# Altium schematic symbol library General.SchLib: 155 symbols (part 1 of 2)
Pins are listed as number, name and electrical type; pins without a type are passive.

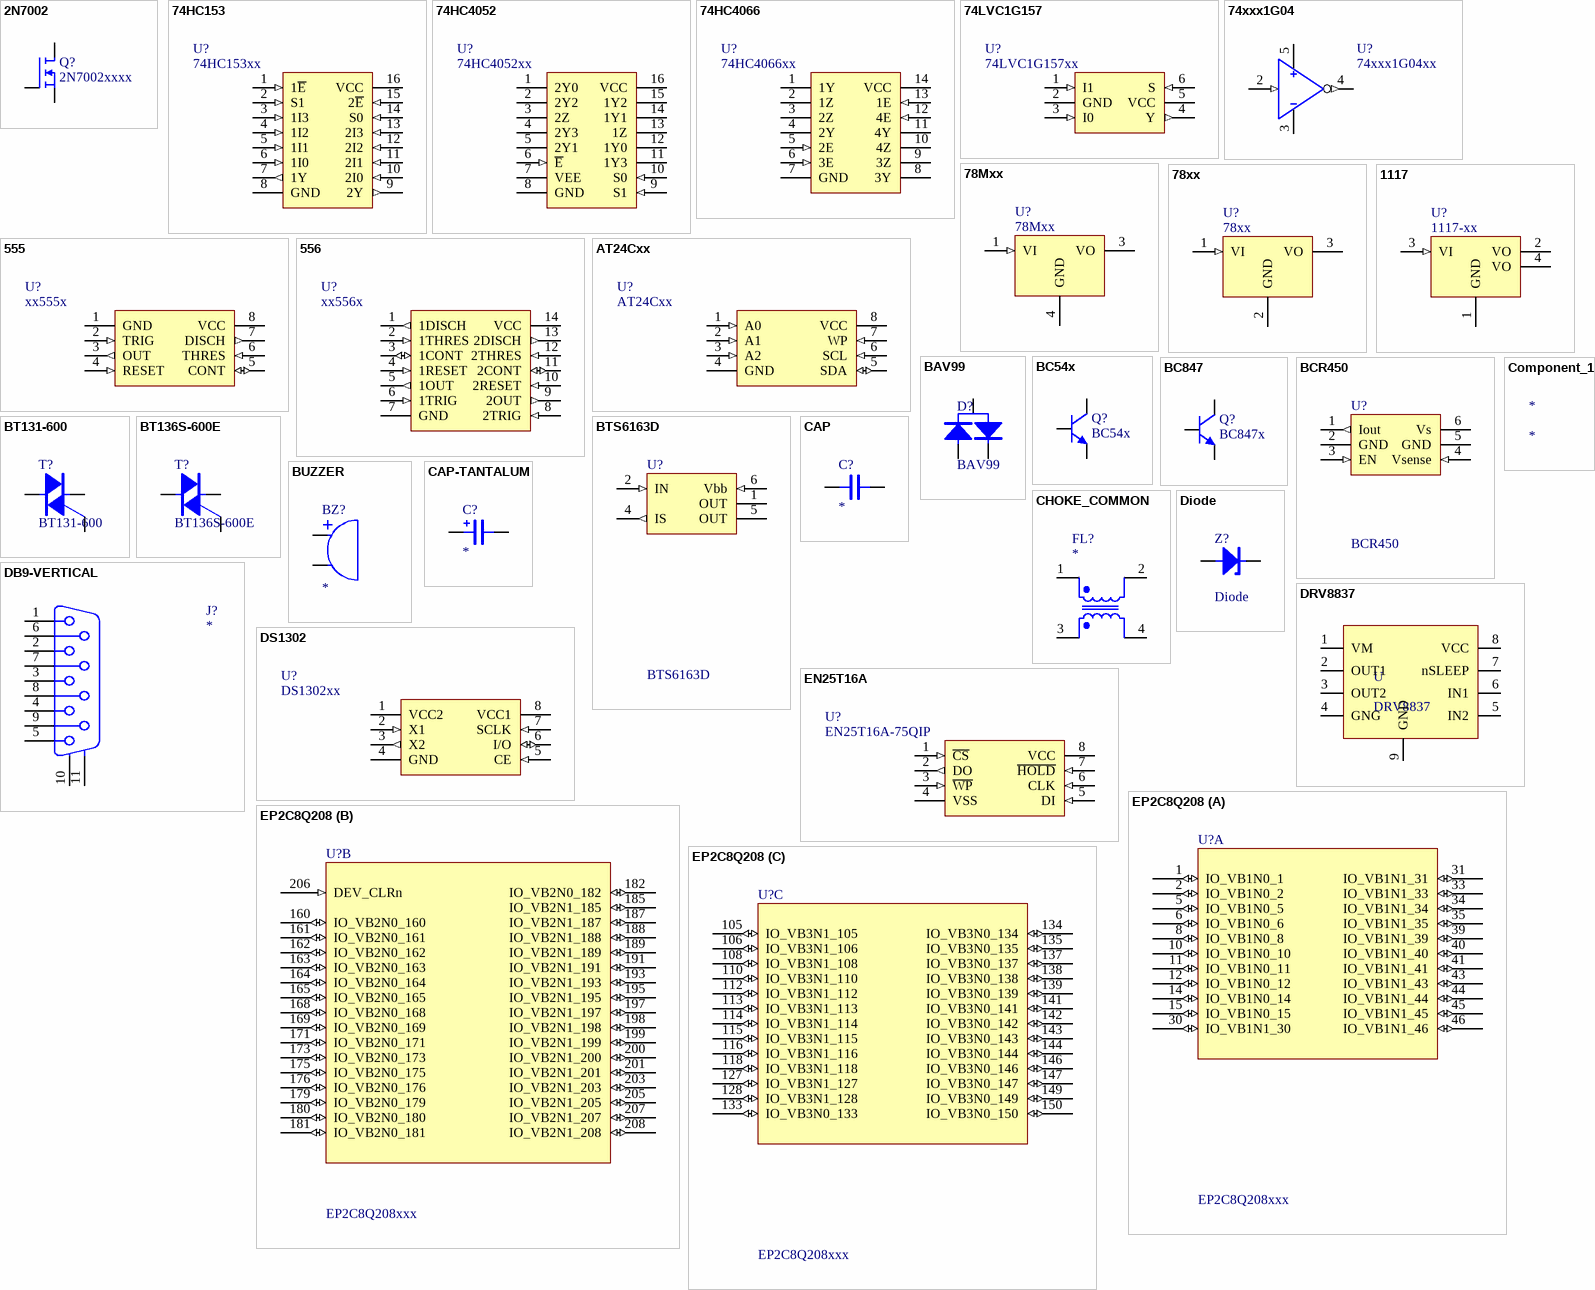
[diagram p0: symbols 2N7002 to EP2C8Q208]

## 2N7002
designator Q?, comment 2N7002xxxx
N-Channel MOSFET
footprint SOT-23 (SOT-23-3)
pins: 1 G, 2 S, 3 D
1 alternate drawing of the same symbol

## 74HC153
designator U?, comment 74HC153xx
IC
footprint TSSOP-16 (TSSOP, 16PIN)
footprint SSOP-16-SOT338-1 (SSOP, 16PIN, SOT338-1)
footprint SO-16 (SOIC, 16PIN)
footprint DIP-16 (Dual In-line Package, 16PIN)
pins: 1 1~{E} (in), 2 S1 (in), 3 1I3 (in), 4 1I2 (in), 5 1I1 (in), 6 1I0 (in), 7 1Y (out), 8 GND (power), 9 2Y (out), 10 2I0 (in), 11 2I1 (in), 12 2I2 (in), 13 2I3 (in), 14 S0 (in), 15 2~{E} (in), 16 VCC (power)

## 74HC4052
designator U?, comment 74HC4052xx
IC
footprint TSSOP-16 (TSSOP, 16PIN)
footprint SSOP-16-SOT338-1 (SSOP, 16PIN, SOT338-1)
footprint SO-16 (SOIC, 16PIN)
pins: 1 2Y0, 2 2Y2, 3 2Z, 4 2Y3, 5 2Y1, 6 ~{E} (in), 7 VEE (power), 8 GND (power), 9 S1 (in), 10 S0 (in), 11 1Y3, 12 1Y0, 13 1Z, 14 1Y1, 15 1Y2, 16 VCC (power)

## 74HC4066
designator U?, comment 74HC4066xx
IC
footprint TSSOP-14 (TSSOP, 14PIN)
footprint SSOP-14-SOT337-1 (SSOP, 14PIN, SOT337)
footprint SO-14 (SOIC, 14PIN)
pins: 1 1Y, 2 1Z, 3 2Z, 4 2Y, 5 2E (in), 6 3E (in), 7 GND (power), 8 3Y, 9 3Z, 10 4Z, 11 4Y, 12 4E (in), 13 1E (in), 14 VCC (power)

## 74LVC1G157
designator U?, comment 74LVC1G157xx
IC
footprint SOT-23-6
footprint SOT-363
pins: 1 I1 (in), 2 GND (power), 3 I0 (in), 4 Y (out), 5 VCC (power), 6 S (in)

## 74xxx1G04
designator U?, comment 74xxx1G04xx
IC
footprint SOT-23-5
pins: 2 A (in), 3 GND (power), 4 Y (out), 5 VCC (power)

## 78Mxx
designator U?
Linear Regulator
footprint TO-252 (TO-252, DPAK)
pins: 1 VI (in), 3 VO (power), 4 GND (power)

## 78xx
designator U?
Linear Regulator
footprint TO-220-V-1.1 (TO-220, 3PIN)
footprint TO-220-YK-1.1 (TO-220 & YK20)
pins: 1 VI (in), 2 GND (power), 3 VO (power)

## 555
designator U?, comment xx555x
IC
footprint SO-8 (SOIC, 8PIN)
footprint DIP-8 (Dual In-line Package, 8PIN)
pins: 1 GND (power), 2 TRIG (in), 3 OUT (out), 4 RESET (in), 5 CONT (io), 6 THRES (in), 7 DISCH (out), 8 VCC (power)

## 556
designator U?, comment xx556x
IC
footprint SO-14 (SOIC, 14PIN)
footprint DIP-14 (Dual In-line Package, 14PIN)
pins: 1 1DISCH (out), 2 1THRES (in), 3 1CONT (io), 4 1RESET (in), 5 1OUT (out), 6 1TRIG (in), 7 GND (power), 8 2TRIG (in), 9 2OUT (out), 10 2RESET (in), 11 2CONT (io), 12 2THRES (in), 13 2DISCH (out), 14 VCC (power)

## 1117
designator U?, comment 1117-xx
Linear Regulator
footprint SOT-223
pins: 1 GND (power), 2 VO (power), 3 VI (in), 4 VO (power)

## AT24Cxx
designator U?
EEPROM
footprint SO-8 (SOIC, 8PIN)
pins: 1 A0 (in), 2 A1 (in), 3 A2 (in), 4 GND (power), 5 SDA (io), 6 SCL (in), 7 WP (in), 8 VCC (power)

## BAV99
designator D?
Diode
footprint SOT-23 (SOT-23-3)
pins: 1 1A, 2 2C, 3 1C2A

## BC54x
designator Q?
NPN Bipolar Transistor
footprint TO-92-0.6 (TO-92)
pins: 1 C, 2 B, 3 E

## BC847
designator Q?, comment BC847x
NPN Bipolar Transistor
footprint SOT-23 (SOT-23-3)
pins: 1 B, 2 E, 3 C

## BCR450
designator U?
LED Driver
footprint SOT-23-6
pins: 1 Iout (out), 2 GND (power), 3 EN (in), 4 Vsense (in), 5 GND (power), 6 Vs (power)

## BT131-600
designator T?
Triac
footprint TO-92-0.6 (TO-92)
pins: 1 T1, 2 G, 3 T2

## BT136S-600E
designator T?
Triac
footprint TO-252 (TO-252, DPAK)
pins: 1 T1, 3 G, 4 T2

## BTS6163D
designator U?
IC
footprint TO-252-5-11 (TO-252-5-11, DPAK5)
pins: 1 OUT (power), 2 IN (in), 4 IS (out), 5 OUT (power), 6 Vbb (in)

## BUZZER
designator BZ?
Buzzer
footprint BUZZER-D12.0X8.5-6.5-0.8 (Buzzer)
pins: 1, 2

## CAP
designator C?
Capacitor
footprint CAP-0805 (Capacitors, SMD, 0805)
footprint CAP-0603 (Capacitors, SMD, 0603)
footprint CAP-1206 (Capacitors, SMD, 1206)
footprint CAP-1210 (Capacitors, SMD, 1210)
footprint CAP-1812 (Capacitors, SMD, 1812)
pins: 1, 2

## CAP-TANTALUM
designator C?
Tantalum Capacitor
footprint CAP-TANTALUM-A (Tantalum Capacitor Case A, SMD)
footprint CAP-TANTALUM-B (Tantalum Capacitor Case B, SMD)
footprint CAP-TANTALUM-C (Tantalum Capacitor Case C, SMD)
footprint CAP-TANTALUM-D (Tantalum Capacitor Case D, SMD)
footprint CAP-TANTALUM-E (Tantalum Capacitor Case E, SMD)
pins: 1, 2

## CHOKE_COMMON
designator FL?
Choke
footprint CHOKE-13x10 (Choke)
pins: 1, 2, 3, 4

## Component_1
designator *

## DB9-VERTICAL
designator J?
Connector
footprint DB9-VERTICAL (D-Subminiature Connector)
pins: 1, 2, 3, 4, 5, 6, 7, 8, 9, 10 MH1, 11 MH2

## Diode
designator Z?
Zener Diode
footprint DO-41
pins: 1 A, 2 C

## DRV8837
designator U
footprint WSON-8
pins: 1 VM, 2 OUT1, 3 OUT2, 4 GNG, 5 IN2, 6 IN1, 7 nSLEEP, 8 VCC, 9 GND

## DS1302
designator U?, comment DS1302xx
IC
footprint SO-8 (SOIC, 8PIN)
footprint DIP-8 (Dual In-line Package, 8PIN)
pins: 1 VCC2 (power), 2 X1 (in), 3 X2 (out), 4 GND (power), 5 CE (in), 6 I/O (io), 7 SCLK (in), 8 VCC1 (power)

## EN25T16A
designator U?, comment EN25T16A-75QIP
Serial Flash
footprint DIP-8 (Dual In-line Package, 8PIN)
pins: 1 ~{CS} (in), 2 DO (out), 3 ~{WP} (in), 4 VSS (power), 5 DI (in), 6 CLK (in), 7 ~{HOLD} (in), 8 VCC (power)

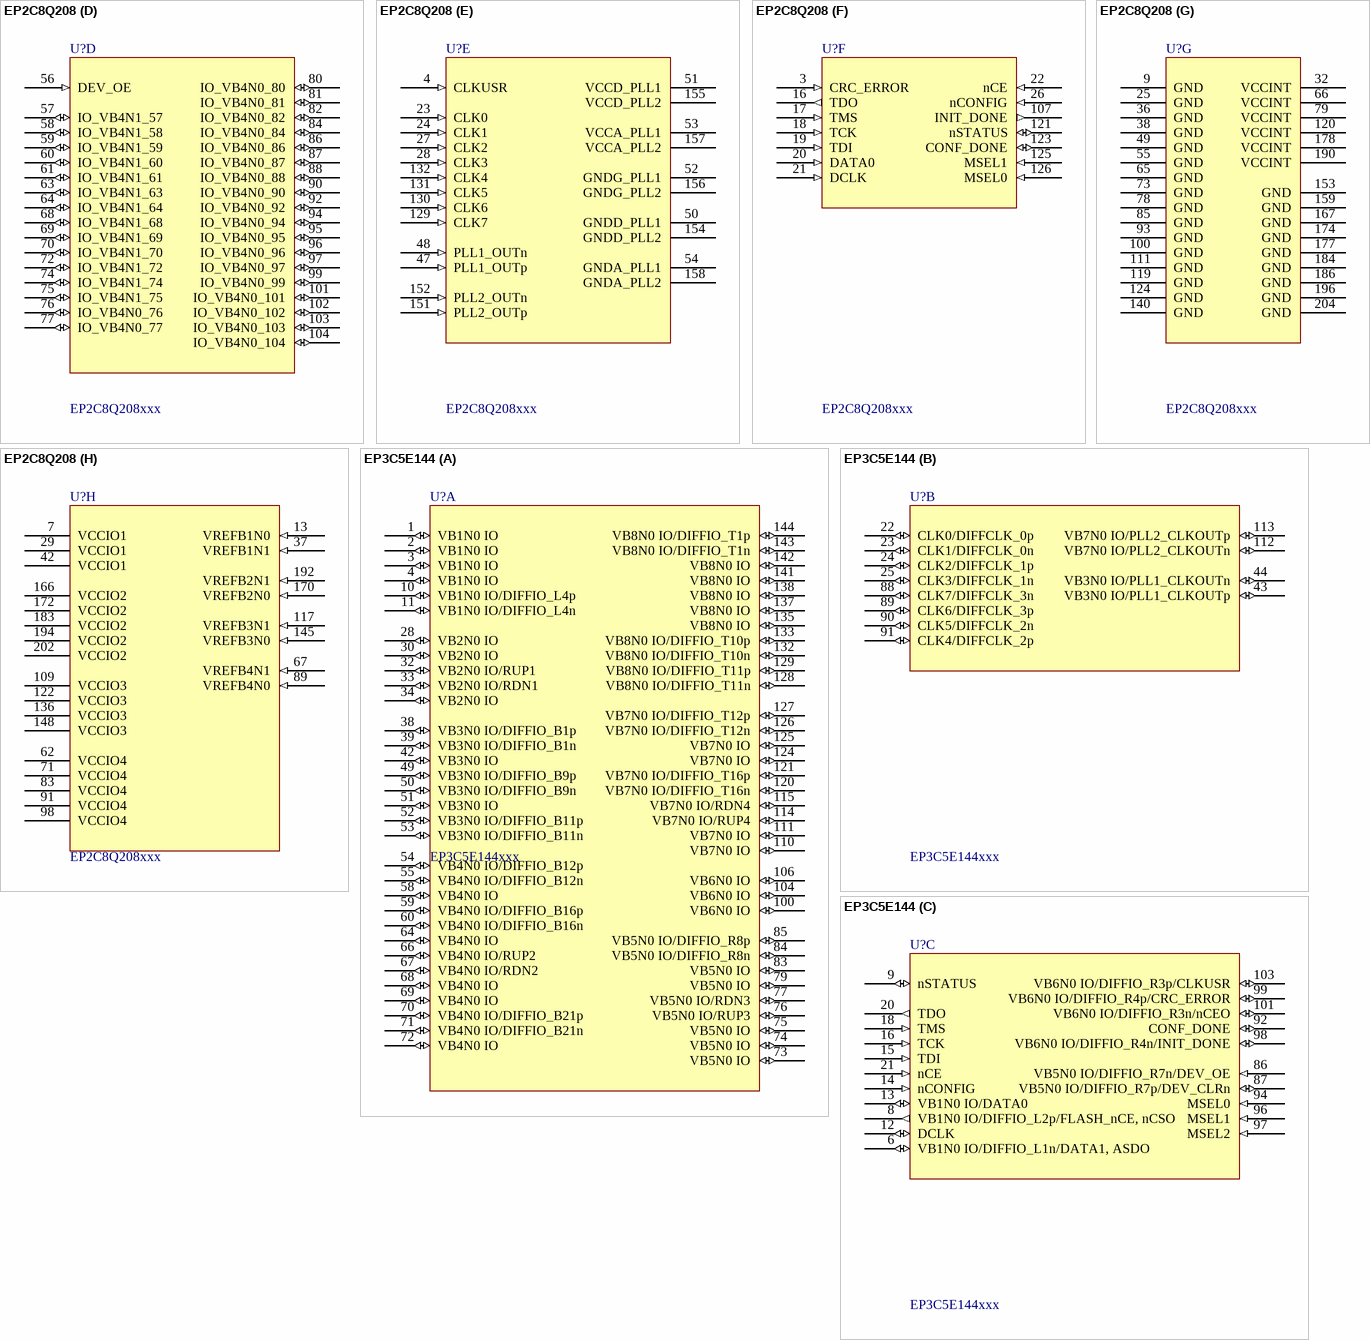
[diagram p1: symbols EP2C8Q208 to EP3C5E144]

## EP2C8Q208
designator U?, comment EP2C8Q208xxx
FPGA
footprint QFP-208-0.5 (QFP-208)
part A pins: 1 IO_VB1N0_1 (io), 2 IO_VB1N0_2 (io), 5 IO_VB1N0_5 (io), 6 IO_VB1N0_6 (io), 8 IO_VB1N0_8 (io), 10 IO_VB1N0_10 (io), 11 IO_VB1N0_11 (io), 12 IO_VB1N0_12 (io), 14 IO_VB1N0_14 (io), 15 IO_VB1N0_15 (io), 30 IO_VB1N1_30 (io), 31 IO_VB1N1_31 (io), 33 IO_VB1N1_33 (io), 34 IO_VB1N1_34 (io), 35 IO_VB1N1_35 (io), 39 IO_VB1N1_39 (io), 40 IO_VB1N1_40 (io), 41 IO_VB1N1_41 (io), 43 IO_VB1N1_43 (io), 44 IO_VB1N1_44 (io), 45 IO_VB1N1_45 (io), 46 IO_VB1N1_46 (io)
part B pins: 160 IO_VB2N0_160 (io), 161 IO_VB2N0_161 (io), 162 IO_VB2N0_162 (io), 163 IO_VB2N0_163 (io), 164 IO_VB2N0_164 (io), 165 IO_VB2N0_165 (io), 168 IO_VB2N0_168 (io), 169 IO_VB2N0_169 (io), 171 IO_VB2N0_171 (io), 173 IO_VB2N0_173 (io), 175 IO_VB2N0_175 (io), 176 IO_VB2N0_176 (io), 179 IO_VB2N0_179 (io), 180 IO_VB2N0_180 (io), 181 IO_VB2N0_181 (io), 182 IO_VB2N0_182 (io), 185 IO_VB2N1_185 (io), 187 IO_VB2N1_187 (io), 188 IO_VB2N1_188 (io), 189 IO_VB2N1_189 (io), 191 IO_VB2N1_191 (io), 193 IO_VB2N1_193 (io), 195 IO_VB2N1_195 (io), 197 IO_VB2N1_197 (io), 198 IO_VB2N1_198 (io), 199 IO_VB2N1_199 (io), 200 IO_VB2N1_200 (io), 201 IO_VB2N1_201 (io), 203 IO_VB2N1_203 (io), 205 IO_VB2N1_205 (io), 206 DEV_CLRn (in), 207 IO_VB2N1_207 (io), 208 IO_VB2N1_208 (io)
part C pins: 105 IO_VB3N1_105 (io), 106 IO_VB3N1_106 (io), 108 IO_VB3N1_108 (io), 110 IO_VB3N1_110 (io), 112 IO_VB3N1_112 (io), 113 IO_VB3N1_113 (io), 114 IO_VB3N1_114 (io), 115 IO_VB3N1_115 (io), 116 IO_VB3N1_116 (io), 118 IO_VB3N1_118 (io), 127 IO_VB3N1_127 (io), 128 IO_VB3N1_128 (io), 133 IO_VB3N0_133 (io), 134 IO_VB3N0_134 (io), 135 IO_VB3N0_135 (io), 137 IO_VB3N0_137 (io), 138 IO_VB3N0_138 (io), 139 IO_VB3N0_139 (io), 141 IO_VB3N0_141 (io), 142 IO_VB3N0_142 (io), 143 IO_VB3N0_143 (io), 144 IO_VB3N0_144 (io), 146 IO_VB3N0_146 (io), 147 IO_VB3N0_147 (io), 149 IO_VB3N0_149 (io), 150 IO_VB3N0_150 (io)
part D pins: 56 DEV_OE (in), 57 IO_VB4N1_57 (io), 58 IO_VB4N1_58 (io), 59 IO_VB4N1_59 (io), 60 IO_VB4N1_60 (io), 61 IO_VB4N1_61 (io), 63 IO_VB4N1_63 (io), 64 IO_VB4N1_64 (io), 68 IO_VB4N1_68 (io), 69 IO_VB4N1_69 (io), 70 IO_VB4N1_70 (io), 72 IO_VB4N1_72 (io), 74 IO_VB4N1_74 (io), 75 IO_VB4N1_75 (io), 76 IO_VB4N0_76 (io), 77 IO_VB4N0_77 (io), 80 IO_VB4N0_80 (io), 81 IO_VB4N0_81 (io), 82 IO_VB4N0_82 (io), 84 IO_VB4N0_84 (io), 86 IO_VB4N0_86 (io), 87 IO_VB4N0_87 (io), 88 IO_VB4N0_88 (io), 90 IO_VB4N0_90 (io), 92 IO_VB4N0_92 (io), 94 IO_VB4N0_94 (io), 95 IO_VB4N0_95 (io), 96 IO_VB4N0_96 (io), 97 IO_VB4N0_97 (io), 99 IO_VB4N0_99 (io), 101 IO_VB4N0_101 (io), 102 IO_VB4N0_102 (io), 103 IO_VB4N0_103 (io), 104 IO_VB4N0_104 (io)
part E pins: 4 CLKUSR (in), 23 CLK0 (in), 24 CLK1 (in), 27 CLK2 (in), 28 CLK3 (in), 47 PLL1_OUTp (in), 48 PLL1_OUTn (in), 50 GNDD_PLL1 (power), 51 VCCD_PLL1 (power), 52 GNDG_PLL1 (power), 53 VCCA_PLL1 (power), 54 GNDA_PLL1 (power), 129 CLK7 (in), 130 CLK6 (in), 131 CLK5 (in), 132 CLK4 (in), 151 PLL2_OUTp (in), 152 PLL2_OUTn (in), 154 GNDD_PLL2 (power), 155 VCCD_PLL2 (power), 156 GNDG_PLL2 (power), 157 VCCA_PLL2 (power), 158 GNDA_PLL2 (power)
part F pins: 3 CRC_ERROR (in), 16 TDO (out), 17 TMS (in), 18 TCK (in), 19 TDI (in), 20 DATA0 (in), 21 DCLK (in), 22 nCE (in), 26 nCONFIG (in), 107 INIT_DONE (out), 121 nSTATUS (io), 123 CONF_DONE (io), 125 MSEL1 (in), 126 MSEL0 (in)
part G pins: 9 GND (power), 25 GND (power), 32 VCCINT (power), 36 GND (power), 38 GND (power), 49 GND (power), 55 GND (power), 65 GND (power), 66 VCCINT (power), 73 GND (power), 78 GND (power), 79 VCCINT (power), 85 GND (power), 93 GND (power), 100 GND (power), 111 GND (power), 119 GND (power), 120 VCCINT (power), 124 GND (power), 140 GND (power), 153 GND (power), 159 GND (power), 167 GND (power), 174 GND (power), 177 GND (power), 178 VCCINT (power), 184 GND (power), 186 GND (power), 190 VCCINT (power), 196 GND (power), 204 GND (power)
part H pins: 7 VCCIO1 (power), 13 VREFB1N0 (in), 29 VCCIO1 (power), 37 VREFB1N1 (in), 42 VCCIO1 (power), 62 VCCIO4 (power), 67 VREFB4N1 (in), 71 VCCIO4 (power), 83 VCCIO4 (power), 89 VREFB4N0 (in), 91 VCCIO4 (power), 98 VCCIO4 (power), 109 VCCIO3 (power), 117 VREFB3N1 (in), 122 VCCIO3 (power), 136 VCCIO3 (power), 145 VREFB3N0 (in), 148 VCCIO3 (power), 166 VCCIO2 (power), 170 VREFB2N0 (in), 172 VCCIO2 (power), 183 VCCIO2 (power), 192 VREFB2N1 (in), 194 VCCIO2 (power), 202 VCCIO2 (power)

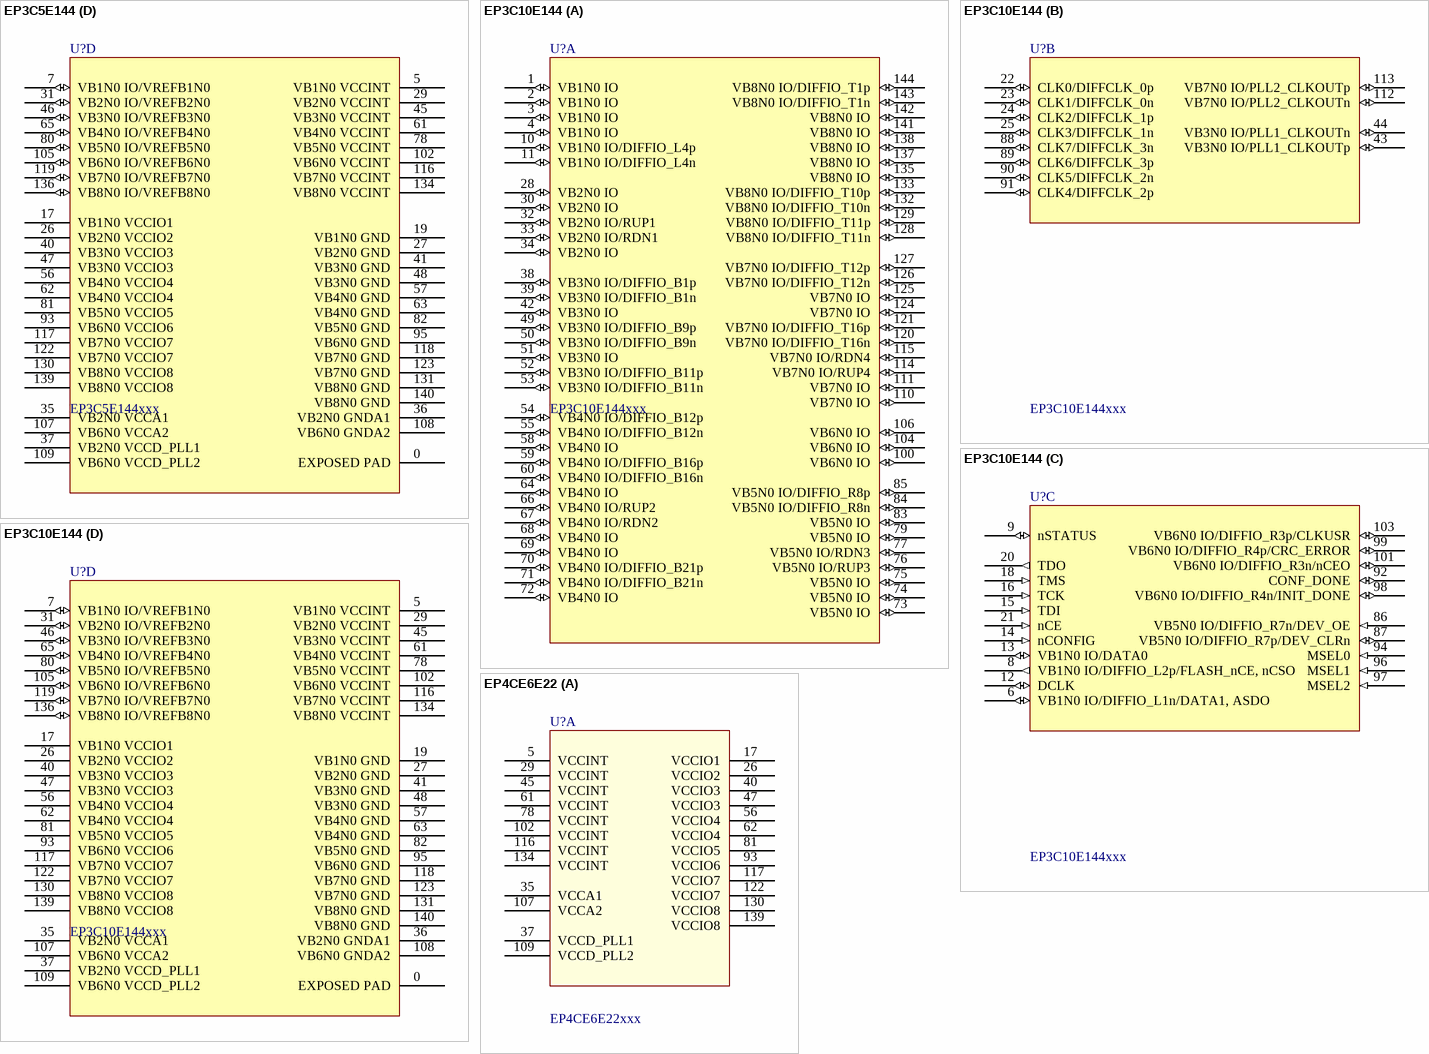
[diagram p2: symbols EP3C5E144 to EP4CE6E22]

## EP3C5E144
designator U?, comment EP3C5E144xxx
FPGA
footprint EQFP-144-0.5 (EQFP-144)
part A pins: 1 VB1N0 IO (io), 2 VB1N0 IO (io), 3 VB1N0 IO (io), 4 VB1N0 IO (io), 10 VB1N0 IO/DIFFIO_L4p (io), 11 VB1N0 IO/DIFFIO_L4n (io), 28 VB2N0 IO (io), 30 VB2N0 IO (io), 32 VB2N0 IO/RUP1 (io), 33 VB2N0 IO/RDN1 (io), 34 VB2N0 IO (io), 38 VB3N0 IO/DIFFIO_B1p (io), 39 VB3N0 IO/DIFFIO_B1n (io), 42 VB3N0 IO (io), 49 VB3N0 IO/DIFFIO_B9p (io), 50 VB3N0 IO/DIFFIO_B9n (io), 51 VB3N0 IO (io), 52 VB3N0 IO/DIFFIO_B11p (io), 53 VB3N0 IO/DIFFIO_B11n (io), 54 VB4N0 IO/DIFFIO_B12p (io), 55 VB4N0 IO/DIFFIO_B12n (io), 58 VB4N0 IO (io), 59 VB4N0 IO/DIFFIO_B16p (io), 60 VB4N0 IO/DIFFIO_B16n (io), 64 VB4N0 IO (io), 66 VB4N0 IO/RUP2 (io), 67 VB4N0 IO/RDN2 (io), 68 VB4N0 IO (io), 69 VB4N0 IO (io), 70 VB4N0 IO/DIFFIO_B21p (io), 71 VB4N0 IO/DIFFIO_B21n (io), 72 VB4N0 IO (io), 73 VB5N0 IO (io), 74 VB5N0 IO (io), 75 VB5N0 IO (io), 76 VB5N0 IO/RUP3 (io), 77 VB5N0 IO/RDN3 (io), 79 VB5N0 IO (io), 83 VB5N0 IO (io), 84 VB5N0 IO/DIFFIO_R8n (io), 85 VB5N0 IO/DIFFIO_R8p (io), 100 VB6N0 IO (io), 104 VB6N0 IO (io), 106 VB6N0 IO (io), 110 VB7N0 IO (io), 111 VB7N0 IO (io), 114 VB7N0 IO/RUP4 (io), 115 VB7N0 IO/RDN4 (io), 120 VB7N0 IO/DIFFIO_T16n (io), 121 VB7N0 IO/DIFFIO_T16p (io), 124 VB7N0 IO (io), 125 VB7N0 IO (io), 126 VB7N0 IO/DIFFIO_T12n (io), 127 VB7N0 IO/DIFFIO_T12p (io), 128 VB8N0 IO/DIFFIO_T11n (io), 129 VB8N0 IO/DIFFIO_T11p (io), 132 VB8N0 IO/DIFFIO_T10n (io), 133 VB8N0 IO/DIFFIO_T10p (io), 135 VB8N0 IO (io), 137 VB8N0 IO (io), 138 VB8N0 IO (io), 141 VB8N0 IO (io), 142 VB8N0 IO (io), 143 VB8N0 IO/DIFFIO_T1n (io), 144 VB8N0 IO/DIFFIO_T1p (io)
part B pins: 22 CLK0/DIFFCLK_0p (io), 23 CLK1/DIFFCLK_0n (io), 24 CLK2/DIFFCLK_1p (io), 25 CLK3/DIFFCLK_1n (io), 43 VB3N0 IO/PLL1_CLKOUTp (io), 44 VB3N0 IO/PLL1_CLKOUTn (io), 88 CLK7/DIFFCLK_3n (io), 89 CLK6/DIFFCLK_3p (io), 90 CLK5/DIFFCLK_2n (io), 91 CLK4/DIFFCLK_2p (io), 112 VB7N0 IO/PLL2_CLKOUTn (io), 113 VB7N0 IO/PLL2_CLKOUTp (io)
part C pins: 6 VB1N0 IO/DIFFIO_L1n/DATA1, ASDO (io), 8 VB1N0 IO/DIFFIO_L2p/FLASH_nCE, nCSO (out), 9 nSTATUS (io), 12 DCLK (io), 13 VB1N0 IO/DATA0 (io), 14 nCONFIG (in), 15 TDI (in), 16 TCK (in), 18 TMS (in), 20 TDO (out), 21 nCE (in), 86 VB5N0 IO/DIFFIO_R7n/DEV_OE (in), 87 VB5N0 IO/DIFFIO_R7p/DEV_CLRn (io), 92 CONF_DONE (io), 94 MSEL0 (in), 96 MSEL1 (in), 97 MSEL2 (in), 98 VB6N0 IO/DIFFIO_R4n/INIT_DONE (io), 99 VB6N0 IO/DIFFIO_R4p/CRC_ERROR (io), 101 VB6N0 IO/DIFFIO_R3n/nCEO (io), 103 VB6N0 IO/DIFFIO_R3p/CLKUSR (io)
part D pins: 0 EXPOSED PAD (power), 5 VB1N0 VCCINT (power), 7 VB1N0 IO/VREFB1N0 (io), 17 VB1N0 VCCIO1 (power), 19 VB1N0 GND (power), 26 VB2N0 VCCIO2 (power), 27 VB2N0 GND (power), 29 VB2N0 VCCINT (power), 31 VB2N0 IO/VREFB2N0 (io), 35 VB2N0 VCCA1 (power), 36 VB2N0 GNDA1 (power), 37 VB2N0 VCCD_PLL1 (power), 40 VB3N0 VCCIO3 (power), 41 VB3N0 GND (power), 45 VB3N0 VCCINT (power), 46 VB3N0 IO/VREFB3N0 (io), 47 VB3N0 VCCIO3 (power), 48 VB3N0 GND (power), 56 VB4N0 VCCIO4 (power), 57 VB4N0 GND (power), 61 VB4N0 VCCINT (power), 62 VB4N0 VCCIO4 (power), 63 VB4N0 GND (power), 65 VB4N0 IO/VREFB4N0 (io), 78 VB5N0 VCCINT (power), 80 VB5N0 IO/VREFB5N0 (io), 81 VB5N0 VCCIO5 (power), 82 VB5N0 GND (power), 93 VB6N0 VCCIO6 (power), 95 VB6N0 GND (power), 102 VB6N0 VCCINT (power), 105 VB6N0 IO/VREFB6N0 (io), 107 VB6N0 VCCA2 (power), 108 VB6N0 GNDA2 (power), 109 VB6N0 VCCD_PLL2 (power), 116 VB7N0 VCCINT (power), 117 VB7N0 VCCIO7 (power), 118 VB7N0 GND (power), 119 VB7N0 IO/VREFB7N0 (io), 122 VB7N0 VCCIO7 (power), 123 VB7N0 GND (power), 130 VB8N0 VCCIO8 (power), 131 VB8N0 GND (power), 134 VB8N0 VCCINT (power), 136 VB8N0 IO/VREFB8N0 (io), 139 VB8N0 VCCIO8 (power), 140 VB8N0 GND (power)

## EP3C10E144
designator U?, comment EP3C10E144xxx
FPGA
footprint EQFP-144-0.5 (EQFP-144)
part A pins: 1 VB1N0 IO (io), 2 VB1N0 IO (io), 3 VB1N0 IO (io), 4 VB1N0 IO (io), 10 VB1N0 IO/DIFFIO_L4p (io), 11 VB1N0 IO/DIFFIO_L4n (io), 28 VB2N0 IO (io), 30 VB2N0 IO (io), 32 VB2N0 IO/RUP1 (io), 33 VB2N0 IO/RDN1 (io), 34 VB2N0 IO (io), 38 VB3N0 IO/DIFFIO_B1p (io), 39 VB3N0 IO/DIFFIO_B1n (io), 42 VB3N0 IO (io), 49 VB3N0 IO/DIFFIO_B9p (io), 50 VB3N0 IO/DIFFIO_B9n (io), 51 VB3N0 IO (io), 52 VB3N0 IO/DIFFIO_B11p (io), 53 VB3N0 IO/DIFFIO_B11n (io), 54 VB4N0 IO/DIFFIO_B12p (io), 55 VB4N0 IO/DIFFIO_B12n (io), 58 VB4N0 IO (io), 59 VB4N0 IO/DIFFIO_B16p (io), 60 VB4N0 IO/DIFFIO_B16n (io), 64 VB4N0 IO (io), 66 VB4N0 IO/RUP2 (io), 67 VB4N0 IO/RDN2 (io), 68 VB4N0 IO (io), 69 VB4N0 IO (io), 70 VB4N0 IO/DIFFIO_B21p (io), 71 VB4N0 IO/DIFFIO_B21n (io), 72 VB4N0 IO (io), 73 VB5N0 IO (io), 74 VB5N0 IO (io), 75 VB5N0 IO (io), 76 VB5N0 IO/RUP3 (io), 77 VB5N0 IO/RDN3 (io), 79 VB5N0 IO (io), 83 VB5N0 IO (io), 84 VB5N0 IO/DIFFIO_R8n (io), 85 VB5N0 IO/DIFFIO_R8p (io), 100 VB6N0 IO (io), 104 VB6N0 IO (io), 106 VB6N0 IO (io), 110 VB7N0 IO (io), 111 VB7N0 IO (io), 114 VB7N0 IO/RUP4 (io), 115 VB7N0 IO/RDN4 (io), 120 VB7N0 IO/DIFFIO_T16n (io), 121 VB7N0 IO/DIFFIO_T16p (io), 124 VB7N0 IO (io), 125 VB7N0 IO (io), 126 VB7N0 IO/DIFFIO_T12n (io), 127 VB7N0 IO/DIFFIO_T12p (io), 128 VB8N0 IO/DIFFIO_T11n (io), 129 VB8N0 IO/DIFFIO_T11p (io), 132 VB8N0 IO/DIFFIO_T10n (io), 133 VB8N0 IO/DIFFIO_T10p (io), 135 VB8N0 IO (io), 137 VB8N0 IO (io), 138 VB8N0 IO (io), 141 VB8N0 IO (io), 142 VB8N0 IO (io), 143 VB8N0 IO/DIFFIO_T1n (io), 144 VB8N0 IO/DIFFIO_T1p (io)
part B pins: 22 CLK0/DIFFCLK_0p (io), 23 CLK1/DIFFCLK_0n (io), 24 CLK2/DIFFCLK_1p (io), 25 CLK3/DIFFCLK_1n (io), 43 VB3N0 IO/PLL1_CLKOUTp (io), 44 VB3N0 IO/PLL1_CLKOUTn (io), 88 CLK7/DIFFCLK_3n (io), 89 CLK6/DIFFCLK_3p (io), 90 CLK5/DIFFCLK_2n (io), 91 CLK4/DIFFCLK_2p (io), 112 VB7N0 IO/PLL2_CLKOUTn (io), 113 VB7N0 IO/PLL2_CLKOUTp (io)
part C pins: 6 VB1N0 IO/DIFFIO_L1n/DATA1, ASDO (io), 8 VB1N0 IO/DIFFIO_L2p/FLASH_nCE, nCSO (out), 9 nSTATUS (io), 12 DCLK (io), 13 VB1N0 IO/DATA0 (io), 14 nCONFIG (in), 15 TDI (in), 16 TCK (in), 18 TMS (in), 20 TDO (out), 21 nCE (in), 86 VB5N0 IO/DIFFIO_R7n/DEV_OE (in), 87 VB5N0 IO/DIFFIO_R7p/DEV_CLRn (io), 92 CONF_DONE (io), 94 MSEL0 (in), 96 MSEL1 (in), 97 MSEL2 (in), 98 VB6N0 IO/DIFFIO_R4n/INIT_DONE (io), 99 VB6N0 IO/DIFFIO_R4p/CRC_ERROR (io), 101 VB6N0 IO/DIFFIO_R3n/nCEO (io), 103 VB6N0 IO/DIFFIO_R3p/CLKUSR (io)
part D pins: 0 EXPOSED PAD (power), 5 VB1N0 VCCINT (power), 7 VB1N0 IO/VREFB1N0 (io), 17 VB1N0 VCCIO1 (power), 19 VB1N0 GND (power), 26 VB2N0 VCCIO2 (power), 27 VB2N0 GND (power), 29 VB2N0 VCCINT (power), 31 VB2N0 IO/VREFB2N0 (io), 35 VB2N0 VCCA1 (power), 36 VB2N0 GNDA1 (power), 37 VB2N0 VCCD_PLL1 (power), 40 VB3N0 VCCIO3 (power), 41 VB3N0 GND (power), 45 VB3N0 VCCINT (power), 46 VB3N0 IO/VREFB3N0 (io), 47 VB3N0 VCCIO3 (power), 48 VB3N0 GND (power), 56 VB4N0 VCCIO4 (power), 57 VB4N0 GND (power), 61 VB4N0 VCCINT (power), 62 VB4N0 VCCIO4 (power), 63 VB4N0 GND (power), 65 VB4N0 IO/VREFB4N0 (io), 78 VB5N0 VCCINT (power), 80 VB5N0 IO/VREFB5N0 (io), 81 VB5N0 VCCIO5 (power), 82 VB5N0 GND (power), 93 VB6N0 VCCIO6 (power), 95 VB6N0 GND (power), 102 VB6N0 VCCINT (power), 105 VB6N0 IO/VREFB6N0 (io), 107 VB6N0 VCCA2 (power), 108 VB6N0 GNDA2 (power), 109 VB6N0 VCCD_PLL2 (power), 116 VB7N0 VCCINT (power), 117 VB7N0 VCCIO7 (power), 118 VB7N0 GND (power), 119 VB7N0 IO/VREFB7N0 (io), 122 VB7N0 VCCIO7 (power), 123 VB7N0 GND (power), 130 VB8N0 VCCIO8 (power), 131 VB8N0 GND (power), 134 VB8N0 VCCINT (power), 136 VB8N0 IO/VREFB8N0 (io), 139 VB8N0 VCCIO8 (power), 140 VB8N0 GND (power)

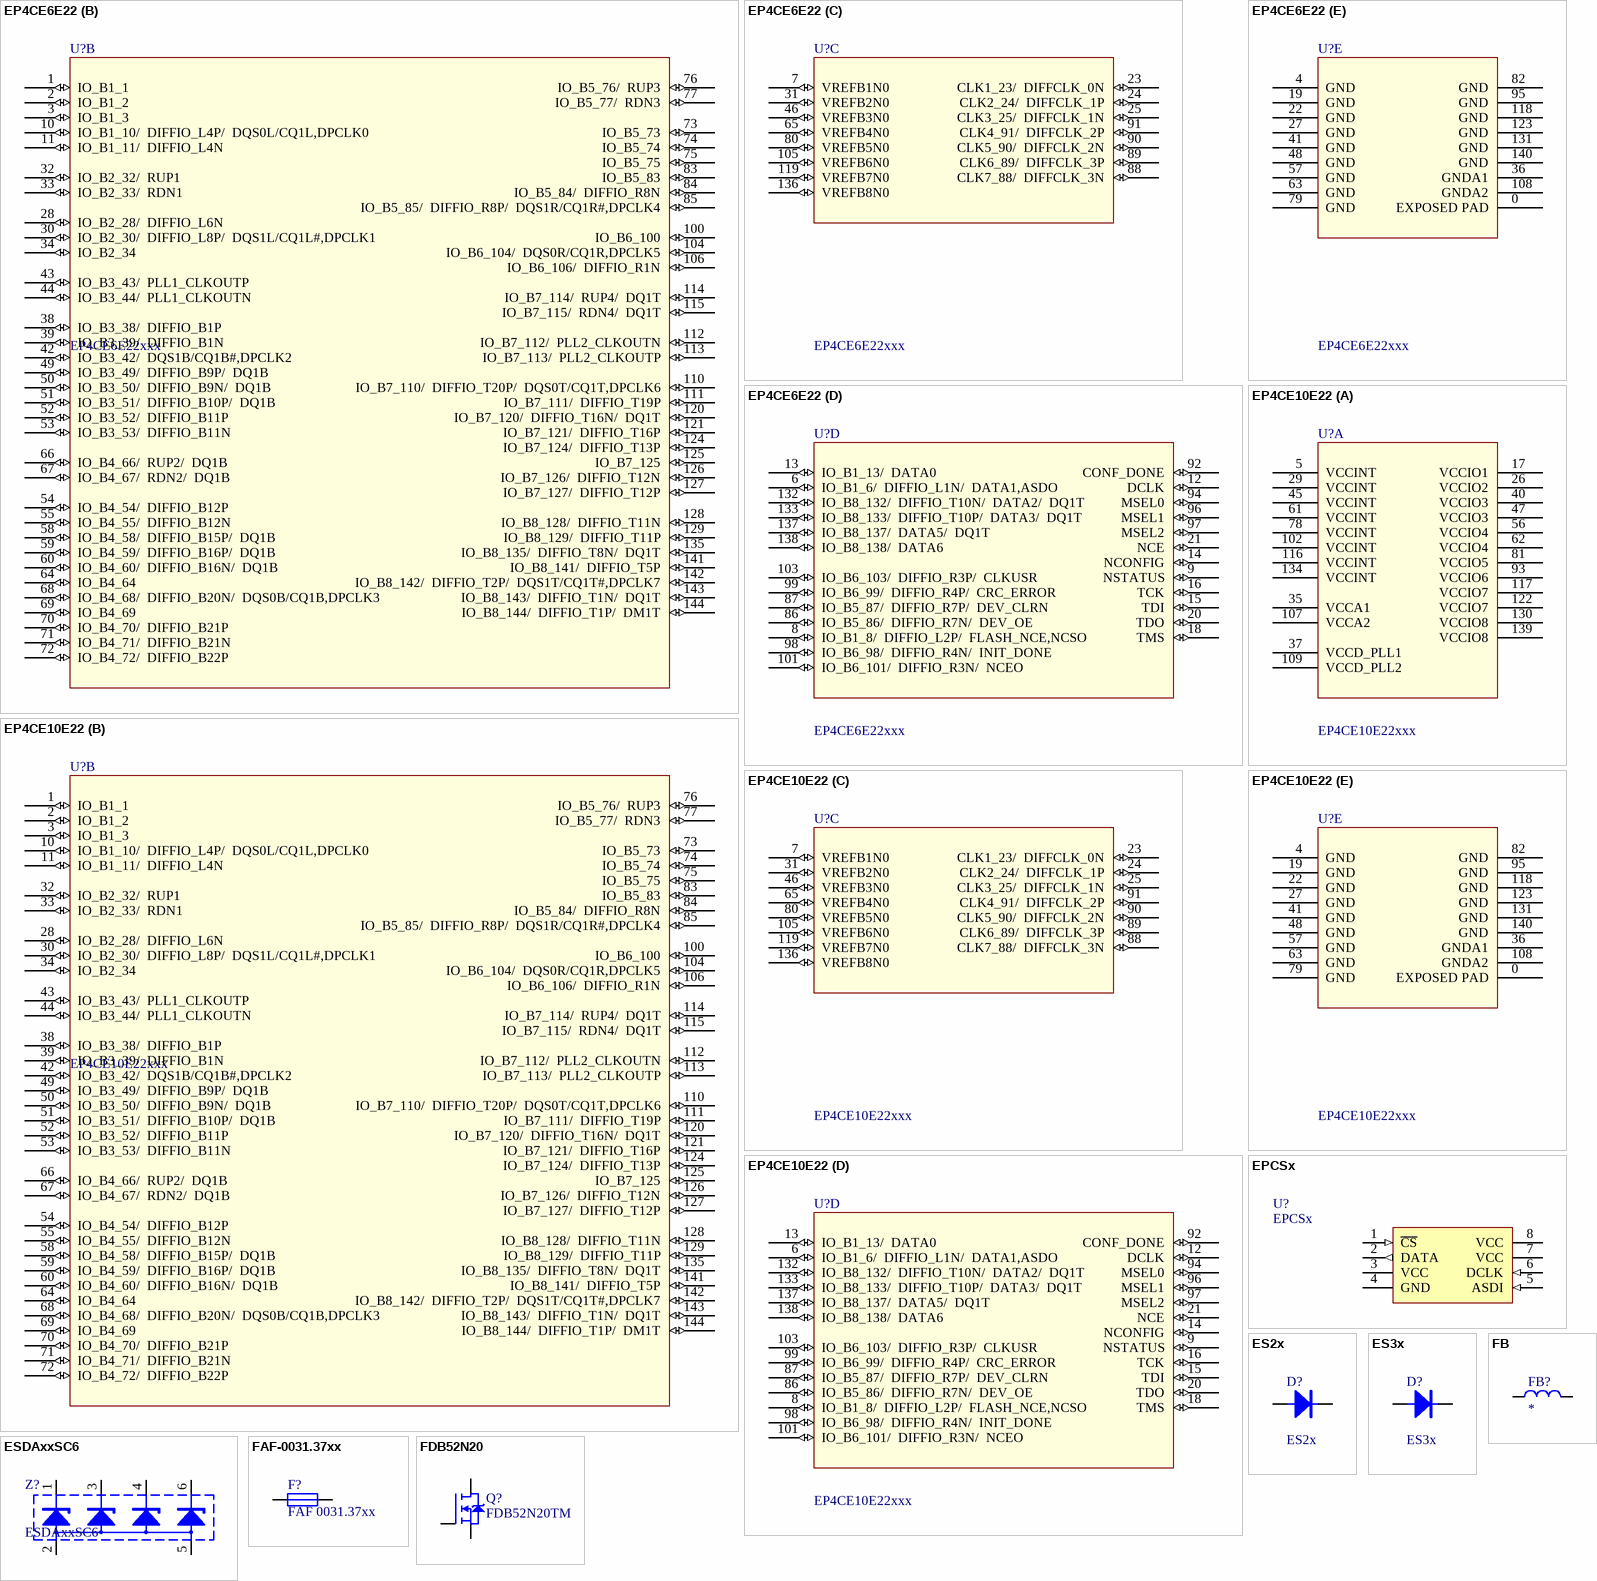
[diagram p3: symbols EP4CE6E22 to FDB52N20]

## EP4CE6E22
designator U?, comment EP4CE6E22xxx
FPGA
footprint EQFP-144-0.5 (EQFP-144)
part A pins: 5 VCCINT (power), 17 VCCIO1 (power), 26 VCCIO2 (power), 29 VCCINT (power), 35 VCCA1 (power), 37 VCCD_PLL1 (power), 40 VCCIO3 (power), 45 VCCINT (power), 47 VCCIO3 (power), 56 VCCIO4 (power), 61 VCCINT (power), 62 VCCIO4 (power), 78 VCCINT (power), 81 VCCIO5 (power), 93 VCCIO6 (power), 102 VCCINT (power), 107 VCCA2 (power), 109 VCCD_PLL2 (power), 116 VCCINT (power), 117 VCCIO7 (power), 122 VCCIO7 (power), 130 VCCIO8 (power), 134 VCCINT (power), 139 VCCIO8 (power)
part B pins: 1 IO_B1_1 (io), 2 IO_B1_2 (io), 3 IO_B1_3 (io), 10 IO_B1_10/  DIFFIO_L4P/  DQS0L/CQ1L,DPCLK0 (io), 11 IO_B1_11/  DIFFIO_L4N (io), 28 IO_B2_28/  DIFFIO_L6N (io), 30 IO_B2_30/  DIFFIO_L8P/  DQS1L/CQ1L#,DPCLK1 (io), 32 IO_B2_32/  RUP1 (io), 33 IO_B2_33/  RDN1 (io), 34 IO_B2_34 (io), 38 IO_B3_38/  DIFFIO_B1P (io), 39 IO_B3_39/  DIFFIO_B1N (io), 42 IO_B3_42/  DQS1B/CQ1B#,DPCLK2 (io), 43 IO_B3_43/  PLL1_CLKOUTP (io), 44 IO_B3_44/  PLL1_CLKOUTN (io), 49 IO_B3_49/  DIFFIO_B9P/  DQ1B (io), 50 IO_B3_50/  DIFFIO_B9N/  DQ1B (io), 51 IO_B3_51/  DIFFIO_B10P/  DQ1B (io), 52 IO_B3_52/  DIFFIO_B11P (io), 53 IO_B3_53/  DIFFIO_B11N (io), 54 IO_B4_54/  DIFFIO_B12P (io), 55 IO_B4_55/  DIFFIO_B12N (io), 58 IO_B4_58/  DIFFIO_B15P/  DQ1B (io), 59 IO_B4_59/  DIFFIO_B16P/  DQ1B (io), 60 IO_B4_60/  DIFFIO_B16N/  DQ1B (io), 64 IO_B4_64 (io), 66 IO_B4_66/  RUP2/  DQ1B (io), 67 IO_B4_67/  RDN2/  DQ1B (io), 68 IO_B4_68/  DIFFIO_B20N/  DQS0B/CQ1B,DPCLK3 (io), 69 IO_B4_69 (io), 70 IO_B4_70/  DIFFIO_B21P (io), 71 IO_B4_71/  DIFFIO_B21N (io), 72 IO_B4_72/  DIFFIO_B22P (io), 73 IO_B5_73 (io), 74 IO_B5_74 (io), 75 IO_B5_75 (io), 76 IO_B5_76/  RUP3 (io), 77 IO_B5_77/  RDN3 (io), 83 IO_B5_83 (io), 84 IO_B5_84/  DIFFIO_R8N (io), 85 IO_B5_85/  DIFFIO_R8P/  DQS1R/CQ1R#,DPCLK4 (io), 100 IO_B6_100 (io), 104 IO_B6_104/  DQS0R/CQ1R,DPCLK5 (io), 106 IO_B6_106/  DIFFIO_R1N (io), 110 IO_B7_110/  DIFFIO_T20P/  DQS0T/CQ1T,DPCLK6 (io), 111 IO_B7_111/  DIFFIO_T19P (io), 112 IO_B7_112/  PLL2_CLKOUTN (io), 113 IO_B7_113/  PLL2_CLKOUTP (io), 114 IO_B7_114/  RUP4/  DQ1T (io), 115 IO_B7_115/  RDN4/  DQ1T (io), 120 IO_B7_120/  DIFFIO_T16N/  DQ1T (io), 121 IO_B7_121/  DIFFIO_T16P (io), 124 IO_B7_124/  DIFFIO_T13P (io), 125 IO_B7_125 (io), 126 IO_B7_126/  DIFFIO_T12N (io), 127 IO_B7_127/  DIFFIO_T12P (io), 128 IO_B8_128/  DIFFIO_T11N (io), 129 IO_B8_129/  DIFFIO_T11P (io), 135 IO_B8_135/  DIFFIO_T8N/  DQ1T (io), 141 IO_B8_141/  DIFFIO_T5P (io), 142 IO_B8_142/  DIFFIO_T2P/  DQS1T/CQ1T#,DPCLK7 (io), 143 IO_B8_143/  DIFFIO_T1N/  DQ1T (io), 144 IO_B8_144/  DIFFIO_T1P/  DM1T (io)
part C pins: 7 VREFB1N0 (io), 23 CLK1_23/  DIFFCLK_0N (io), 24 CLK2_24/  DIFFCLK_1P (io), 25 CLK3_25/  DIFFCLK_1N (io), 31 VREFB2N0 (io), 46 VREFB3N0 (io), 65 VREFB4N0 (io), 80 VREFB5N0 (io), 88 CLK7_88/  DIFFCLK_3N (io), 89 CLK6_89/  DIFFCLK_3P (io), 90 CLK5_90/  DIFFCLK_2N (io), 91 CLK4_91/  DIFFCLK_2P (io), 105 VREFB6N0 (io), 119 VREFB7N0 (io), 136 VREFB8N0 (io)
part D pins: 6 IO_B1_6/  DIFFIO_L1N/  DATA1,ASDO (io), 8 IO_B1_8/  DIFFIO_L2P/  FLASH_NCE,NCSO (io), 9 NSTATUS (io), 12 DCLK (io), 13 IO_B1_13/  DATA0 (io), 14 NCONFIG (io), 15 TDI (io), 16 TCK (io), 18 TMS (io), 20 TDO (io), 21 NCE (io), 86 IO_B5_86/  DIFFIO_R7N/  DEV_OE (io), 87 IO_B5_87/  DIFFIO_R7P/  DEV_CLRN (io), 92 CONF_DONE (io), 94 MSEL0 (io), 96 MSEL1 (io), 97 MSEL2 (io), 98 IO_B6_98/  DIFFIO_R4N/  INIT_DONE (io), 99 IO_B6_99/  DIFFIO_R4P/  CRC_ERROR (io), 101 IO_B6_101/  DIFFIO_R3N/  NCEO (io), 103 IO_B6_103/  DIFFIO_R3P/  CLKUSR (io), 132 IO_B8_132/  DIFFIO_T10N/  DATA2/  DQ1T (io), 133 IO_B8_133/  DIFFIO_T10P/  DATA3/  DQ1T (io), 137 IO_B8_137/  DATA5/  DQ1T (io), 138 IO_B8_138/  DATA6 (io)
part E pins: 0 EXPOSED PAD (power), 4 GND (power), 19 GND (power), 22 GND (power), 27 GND (power), 36 GNDA1 (power), 41 GND (power), 48 GND (power), 57 GND (power), 63 GND (power), 79 GND (power), 82 GND (power), 95 GND (power), 108 GNDA2 (power), 118 GND (power), 123 GND (power), 131 GND (power), 140 GND (power)

## EP4CE10E22
designator U?, comment EP4CE10E22xxx
FPGA
footprint EQFP-144-0.5 (EQFP-144)
part A pins: 5 VCCINT (power), 17 VCCIO1 (power), 26 VCCIO2 (power), 29 VCCINT (power), 35 VCCA1 (power), 37 VCCD_PLL1 (power), 40 VCCIO3 (power), 45 VCCINT (power), 47 VCCIO3 (power), 56 VCCIO4 (power), 61 VCCINT (power), 62 VCCIO4 (power), 78 VCCINT (power), 81 VCCIO5 (power), 93 VCCIO6 (power), 102 VCCINT (power), 107 VCCA2 (power), 109 VCCD_PLL2 (power), 116 VCCINT (power), 117 VCCIO7 (power), 122 VCCIO7 (power), 130 VCCIO8 (power), 134 VCCINT (power), 139 VCCIO8 (power)
part B pins: 1 IO_B1_1 (io), 2 IO_B1_2 (io), 3 IO_B1_3 (io), 10 IO_B1_10/  DIFFIO_L4P/  DQS0L/CQ1L,DPCLK0 (io), 11 IO_B1_11/  DIFFIO_L4N (io), 28 IO_B2_28/  DIFFIO_L6N (io), 30 IO_B2_30/  DIFFIO_L8P/  DQS1L/CQ1L#,DPCLK1 (io), 32 IO_B2_32/  RUP1 (io), 33 IO_B2_33/  RDN1 (io), 34 IO_B2_34 (io), 38 IO_B3_38/  DIFFIO_B1P (io), 39 IO_B3_39/  DIFFIO_B1N (io), 42 IO_B3_42/  DQS1B/CQ1B#,DPCLK2 (io), 43 IO_B3_43/  PLL1_CLKOUTP (io), 44 IO_B3_44/  PLL1_CLKOUTN (io), 49 IO_B3_49/  DIFFIO_B9P/  DQ1B (io), 50 IO_B3_50/  DIFFIO_B9N/  DQ1B (io), 51 IO_B3_51/  DIFFIO_B10P/  DQ1B (io), 52 IO_B3_52/  DIFFIO_B11P (io), 53 IO_B3_53/  DIFFIO_B11N (io), 54 IO_B4_54/  DIFFIO_B12P (io), 55 IO_B4_55/  DIFFIO_B12N (io), 58 IO_B4_58/  DIFFIO_B15P/  DQ1B (io), 59 IO_B4_59/  DIFFIO_B16P/  DQ1B (io), 60 IO_B4_60/  DIFFIO_B16N/  DQ1B (io), 64 IO_B4_64 (io), 66 IO_B4_66/  RUP2/  DQ1B (io), 67 IO_B4_67/  RDN2/  DQ1B (io), 68 IO_B4_68/  DIFFIO_B20N/  DQS0B/CQ1B,DPCLK3 (io), 69 IO_B4_69 (io), 70 IO_B4_70/  DIFFIO_B21P (io), 71 IO_B4_71/  DIFFIO_B21N (io), 72 IO_B4_72/  DIFFIO_B22P (io), 73 IO_B5_73 (io), 74 IO_B5_74 (io), 75 IO_B5_75 (io), 76 IO_B5_76/  RUP3 (io), 77 IO_B5_77/  RDN3 (io), 83 IO_B5_83 (io), 84 IO_B5_84/  DIFFIO_R8N (io), 85 IO_B5_85/  DIFFIO_R8P/  DQS1R/CQ1R#,DPCLK4 (io), 100 IO_B6_100 (io), 104 IO_B6_104/  DQS0R/CQ1R,DPCLK5 (io), 106 IO_B6_106/  DIFFIO_R1N (io), 110 IO_B7_110/  DIFFIO_T20P/  DQS0T/CQ1T,DPCLK6 (io), 111 IO_B7_111/  DIFFIO_T19P (io), 112 IO_B7_112/  PLL2_CLKOUTN (io), 113 IO_B7_113/  PLL2_CLKOUTP (io), 114 IO_B7_114/  RUP4/  DQ1T (io), 115 IO_B7_115/  RDN4/  DQ1T (io), 120 IO_B7_120/  DIFFIO_T16N/  DQ1T (io), 121 IO_B7_121/  DIFFIO_T16P (io), 124 IO_B7_124/  DIFFIO_T13P (io), 125 IO_B7_125 (io), 126 IO_B7_126/  DIFFIO_T12N (io), 127 IO_B7_127/  DIFFIO_T12P (io), 128 IO_B8_128/  DIFFIO_T11N (io), 129 IO_B8_129/  DIFFIO_T11P (io), 135 IO_B8_135/  DIFFIO_T8N/  DQ1T (io), 141 IO_B8_141/  DIFFIO_T5P (io), 142 IO_B8_142/  DIFFIO_T2P/  DQS1T/CQ1T#,DPCLK7 (io), 143 IO_B8_143/  DIFFIO_T1N/  DQ1T (io), 144 IO_B8_144/  DIFFIO_T1P/  DM1T (io)
part C pins: 7 VREFB1N0 (io), 23 CLK1_23/  DIFFCLK_0N (io), 24 CLK2_24/  DIFFCLK_1P (io), 25 CLK3_25/  DIFFCLK_1N (io), 31 VREFB2N0 (io), 46 VREFB3N0 (io), 65 VREFB4N0 (io), 80 VREFB5N0 (io), 88 CLK7_88/  DIFFCLK_3N (io), 89 CLK6_89/  DIFFCLK_3P (io), 90 CLK5_90/  DIFFCLK_2N (io), 91 CLK4_91/  DIFFCLK_2P (io), 105 VREFB6N0 (io), 119 VREFB7N0 (io), 136 VREFB8N0 (io)
part D pins: 6 IO_B1_6/  DIFFIO_L1N/  DATA1,ASDO (io), 8 IO_B1_8/  DIFFIO_L2P/  FLASH_NCE,NCSO (io), 9 NSTATUS (io), 12 DCLK (io), 13 IO_B1_13/  DATA0 (io), 14 NCONFIG (io), 15 TDI (io), 16 TCK (io), 18 TMS (io), 20 TDO (io), 21 NCE (io), 86 IO_B5_86/  DIFFIO_R7N/  DEV_OE (io), 87 IO_B5_87/  DIFFIO_R7P/  DEV_CLRN (io), 92 CONF_DONE (io), 94 MSEL0 (io), 96 MSEL1 (io), 97 MSEL2 (io), 98 IO_B6_98/  DIFFIO_R4N/  INIT_DONE (io), 99 IO_B6_99/  DIFFIO_R4P/  CRC_ERROR (io), 101 IO_B6_101/  DIFFIO_R3N/  NCEO (io), 103 IO_B6_103/  DIFFIO_R3P/  CLKUSR (io), 132 IO_B8_132/  DIFFIO_T10N/  DATA2/  DQ1T (io), 133 IO_B8_133/  DIFFIO_T10P/  DATA3/  DQ1T (io), 137 IO_B8_137/  DATA5/  DQ1T (io), 138 IO_B8_138/  DATA6 (io)
part E pins: 0 EXPOSED PAD (power), 4 GND (power), 19 GND (power), 22 GND (power), 27 GND (power), 36 GNDA1 (power), 41 GND (power), 48 GND (power), 57 GND (power), 63 GND (power), 79 GND (power), 82 GND (power), 95 GND (power), 108 GNDA2 (power), 118 GND (power), 123 GND (power), 131 GND (power), 140 GND (power)

## EPCSx
designator U?
Flash
footprint SO-8 (SOIC, 8PIN)
pins: 1 ~{CS} (in), 2 DATA (out), 3 VCC (power), 4 GND (power), 5 ASDI (in), 6 DCLK (in), 7 VCC (power), 8 VCC (power)

## ES2x
designator D?
Diode
footprint SMB (DO-214AA)
pins: 1 A, 2 C

## ES3x
designator D?
Diode
footprint SMC (DO-214AB)
pins: 1 A, 2 C

## ESDAxxSC6
designator Z?
TVS Array
footprint SOT-23-6
pins: 1 K, 2 A, 3 K, 4 K, 5 A, 6 K

## FAF-0031.37xx
designator F?, comment FAF 0031.37xx
Fuse holder
footprint FAF-0031.37XX (SCHURTER Fuseholder)
pins: 1, 2

## FB
designator FB?
Ferrite Bead
footprint 0805
pins: 1, 2

## FDB52N20
designator Q?, comment FDB52N20TM
N-Channel MOSFET
footprint TO-263-2 (TO-263, D2PAK, 2PIN)
pins: 1 G, 3 S, 4 D
1 alternate drawing of the same symbol

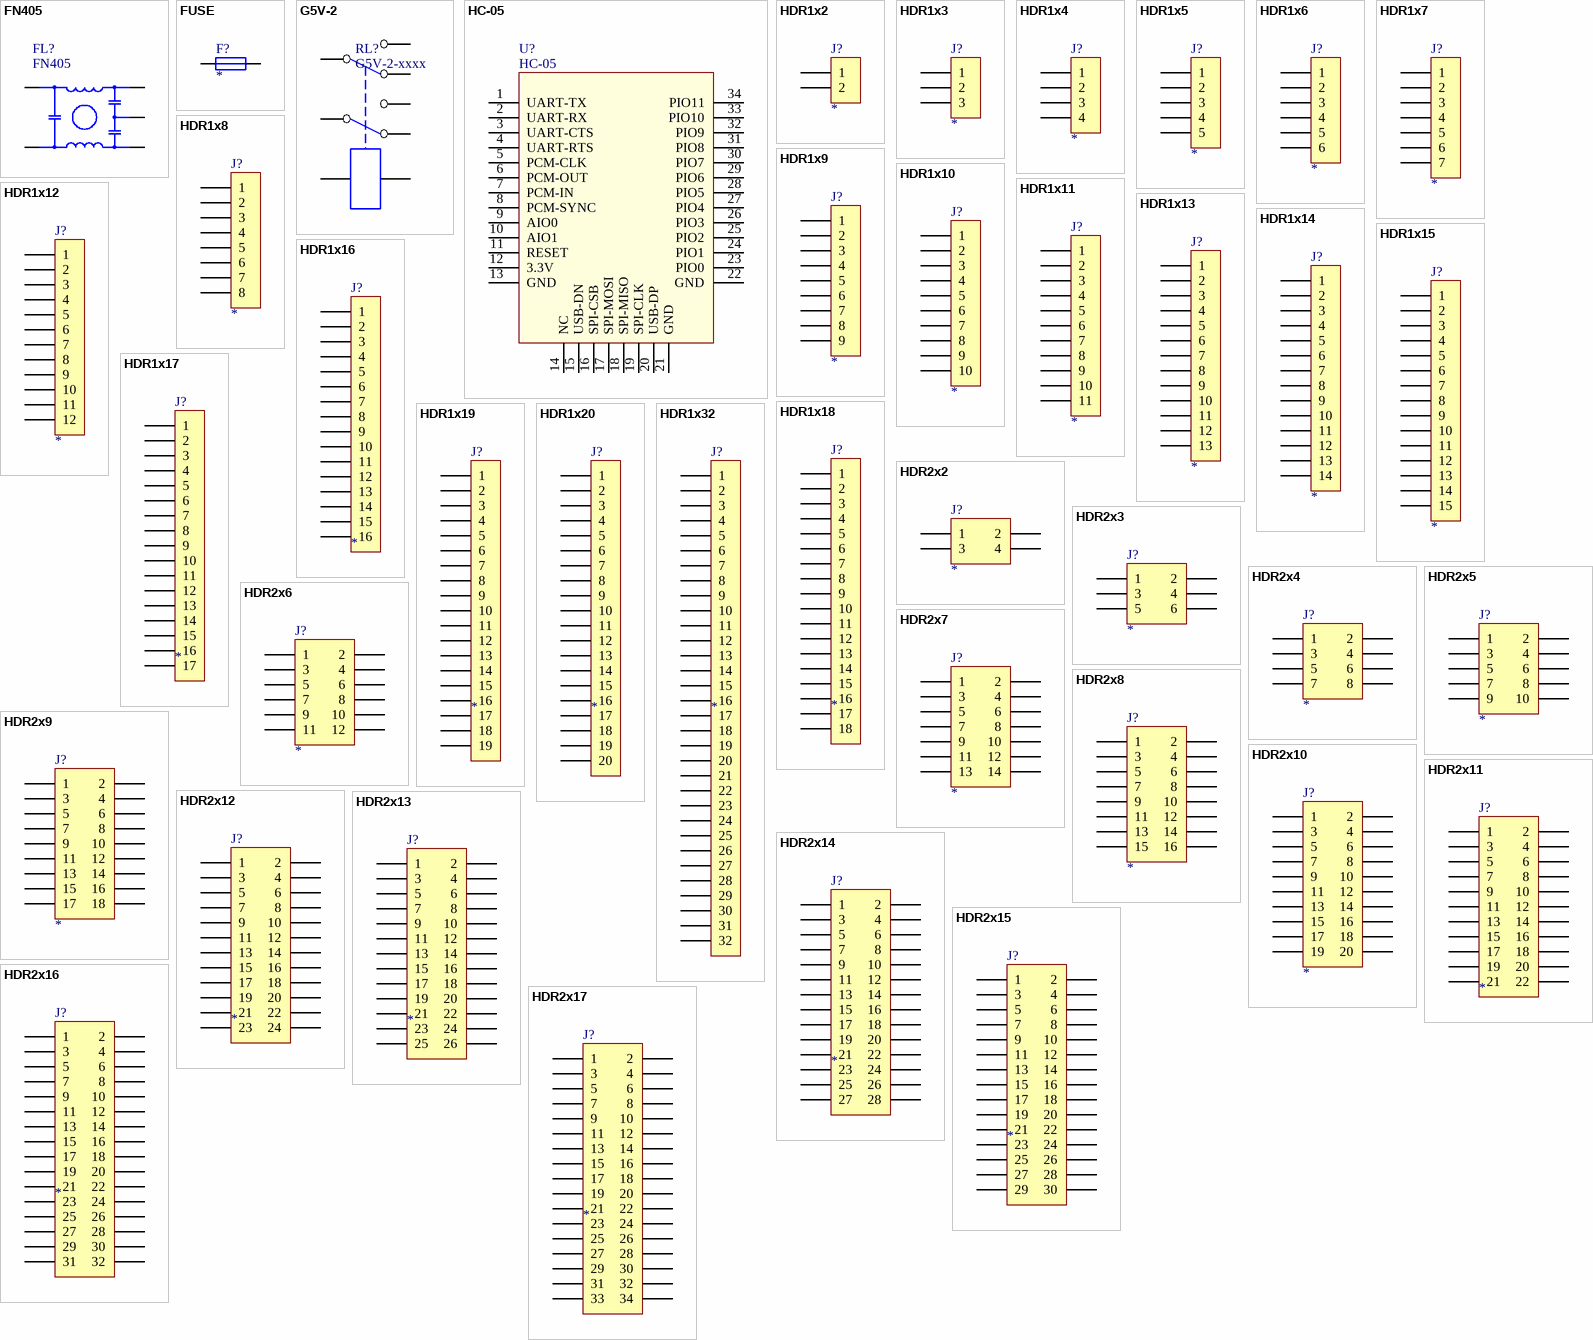
[diagram p4: symbols FN405 to HDR2x17]

## FN405
designator FL?
Filters
footprint FN405 (SCHAFFNER PCB Filters)
pins: 1, 2, 3, 4, 5

## FUSE
designator F?
Fuse
footprint FUSE-1812 (Fuse, SMD, 1812)
pins: 1, 2

## G5V-2
designator RL?, comment G5V-2-xxxx
Relay
footprint G5V-2 (Relay, OMRON)
pins: 1, 4, 6, 8, 9, 11, 13, 16

## HC-05
designator U?
Bluetooth Module
footprint HC-05 (Bluetooth Module, HC-05)
pins: 1 UART-TX, 2 UART-RX, 3 UART-CTS, 4 UART-RTS, 5 PCM-CLK, 6 PCM-OUT, 7 PCM-IN, 8 PCM-SYNC, 9 AIO0, 10 AIO1, 11 RESET, 12 3.3V, 13 GND, 14 NC, 15 USB-DN, 16 SPI-CSB, 17 SPI-MOSI, 18 SPI-MISO, 19 SPI-CLK, 20 USB-DP, 21 GND, 22 GND, 23 PIO0, 24 PIO1, 25 PIO2, 26 PIO3, 27 PIO4, 28 PIO5, 29 PIO6, 30 PIO7, 31 PIO8, 32 PIO9, 33 PIO10, 34 PIO11

## HDR1x2
designator J?
Connector
footprint PIN-2-2.54-1.0 (Pin Header)
footprint PIN-2-2.0-0.8 (Pin Header)
footprint PH-2 (Pin Header)
footprint XH-2 (Pin Header)
footprint 5.08-2 (Pin Header)
footprint PH-2-SIDE (Pin Header, Side entry)
footprint PH-2-SIDE-SMD (Pin Header, Side entry, SMD)
footprint XH-2-SIDE (Pin Header, Side entry)
pins: 1, 2

## HDR1x3
designator J?
Connector
footprint PIN-3-2.54-1.0 (Pin Header)
footprint PIN-3-2.0-0.8 (Pin Header)
footprint PH-3 (Pin Header)
footprint XH-3 (Pin Header)
footprint 5.08-3 (Pin Header)
footprint PH-3-SIDE (Pin Header, Side entry)
footprint PH-3-SIDE-SMD (Pin Header, Side entry, SMD)
footprint XH-3-SIDE (Pin Header, Side entry)
pins: 1, 2, 3

## HDR1x4
designator J?
Connector
footprint PIN-4-2.54-1.0 (Pin Header)
footprint PIN-4-2.0-0.8 (Pin Header)
footprint PH-4 (Pin Header)
footprint XH-4 (Pin Header)
footprint 5.08-4 (Pin Header)
footprint PH-4-SIDE (Pin Header, Side entry)
footprint PH-4-SIDE-SMD (Pin Header, Side entry, SMD)
footprint XH-4-SIDE (Pin Header, Side entry)
pins: 1, 2, 3, 4

## HDR1x5
designator J?
Connector
footprint PIN-5-2.54-1.0 (Pin Header)
footprint PIN-5-2.0-0.8 (Pin Header)
footprint PH-5 (Pin Header)
footprint XH-5 (Pin Header)
footprint 5.08-5 (Pin Header)
footprint PH-5-SIDE (Pin Header, Side entry)
footprint PH-5-SIDE-SMD (Pin Header, Side entry, SMD)
footprint XH-5-SIDE (Pin Header, Side entry)
pins: 1, 2, 3, 4, 5

## HDR1x6
designator J?
Connector
footprint PIN-6-2.54-1.0 (Pin Header)
footprint PIN-6-2.0-0.8 (Pin Header)
footprint PH-6 (Pin Header)
footprint XH-6 (Pin Header)
footprint 5.08-6 (Pin Header)
footprint PH-6-SIDE (Pin Header, Side entry)
footprint PH-6-SIDE-SMD (Pin Header, Side entry, SMD)
footprint XH-6-SIDE (Pin Header, Side entry)
pins: 1, 2, 3, 4, 5, 6

## HDR1x7
designator J?
Connector
footprint PIN-7-2.54-1.0 (Pin Header)
footprint PIN-7-2.0-0.8 (Pin Header)
footprint PH-7 (Pin Header)
footprint XH-7 (Pin Header)
footprint 5.08-7 (Pin Header)
footprint PH-7-SIDE (Pin Header, Side entry)
footprint PH-7-SIDE-SMD (Pin Header, Side entry, SMD)
footprint XH-7-SIDE (Pin Header, Side entry)
pins: 1, 2, 3, 4, 5, 6, 7

## HDR1x8
designator J?
Connector
footprint PIN-8-2.54-1.0 (Pin Header)
footprint PIN-8-2.0-0.8 (Pin Header)
footprint PH-8 (Pin Header)
footprint XH-8 (Pin Header)
footprint 5.08-8 (Pin Header)
footprint PH-8-SIDE (Pin Header, Side entry)
footprint PH-8-SIDE-SMD (Pin Header, Side entry, SMD)
footprint XH-8-SIDE (Pin Header, Side entry)
footprint MOLEX-53261-0890 (1.25mm Connector, Molex, 53261-0890)
pins: 1, 2, 3, 4, 5, 6, 7, 8

## HDR1x9
designator J?
Connector
footprint PIN-9-2.54-1.0 (Pin Header)
footprint PIN-9-2.0-0.8 (Pin Header)
footprint PH-9 (Pin Header)
footprint XH-9 (Pin Header)
footprint 5.08-9 (Pin Header)
footprint PH-9-SIDE (Pin Header, Side entry)
footprint PH-9-SIDE-SMD (Pin Header, Side entry, SMD)
footprint XH-9-SIDE (Pin Header, Side entry)
pins: 1, 2, 3, 4, 5, 6, 7, 8, 9

## HDR1x10
designator J?
Connector
footprint PIN-10-2.54-1.0 (Pin Header)
footprint PIN-10-2.0-0.8 (Pin Header)
footprint PH-10 (Pin Header)
footprint XH-10 (Pin Header)
footprint PH-10-SIDE (Pin Header, Side entry)
footprint PH-10-SIDE-SMD (Pin Header, Side entry, SMD)
footprint XH-10-SIDE (Pin Header, Side entry)
pins: 1, 2, 3, 4, 5, 6, 7, 8, 9, 10

## HDR1x11
designator J?
Connector
footprint PIN-11-2.54-1.0 (Pin Header)
footprint PIN-11-2.0-0.8 (Pin Header)
footprint PH-11 (Pin Header)
footprint XH-11 (Pin Header)
footprint PH-11-SIDE (Pin Header, Side entry)
footprint PH-11-SIDE-SMD (Pin Header, Side entry, SMD)
footprint XH-11-SIDE (Pin Header, Side entry)
pins: 1, 2, 3, 4, 5, 6, 7, 8, 9, 10, 11

## HDR1x12
designator J?
Connector
footprint PIN-12-2.54-1.0 (Pin Header)
footprint PIN-12-2.0-0.8 (Pin Header)
footprint PH-12 (Pin Header)
footprint XH-12 (Pin Header)
footprint MSTBVA 2.5/12-G-5.08 (Socket, PHOENIX CONTACT)
footprint PH-12-SIDE (Pin Header, Side entry)
footprint PH-12-SIDE-SMD (Pin Header, Side entry, SMD)
footprint XH-12-SIDE (Pin Header, Side entry)
pins: 1, 2, 3, 4, 5, 6, 7, 8, 9, 10, 11, 12

## HDR1x13
designator J?
Connector
footprint PIN-13-2.54-1.0 (Pin Header)
footprint PIN-13-2.0-0.8 (Pin Header)
footprint PH-13 (Pin Header)
footprint PH-13-SIDE-SMD (Pin Header, Side entry, SMD)
footprint PH-13-SIDE (Pin Header, Side entry)
footprint PH-13-SIDE-SMD (Pin Header, Side entry, SMD)
pins: 1, 2, 3, 4, 5, 6, 7, 8, 9, 10, 11, 12, 13

## HDR1x14
designator J?
Connector
footprint PIN-14-2.54-1.0 (Pin Header)
footprint PIN-14-2.0-0.8 (Pin Header)
footprint PH-14 (Pin Header)
footprint PH-14-SIDE (Pin Header, Side entry)
footprint PH-14-SIDE-SMD (Pin Header, Side entry, SMD)
pins: 1, 2, 3, 4, 5, 6, 7, 8, 9, 10, 11, 12, 13, 14

## HDR1x15
designator J?
Connector
footprint PIN-15-2.54-1.0 (Pin Header)
footprint PIN-15-2.0-0.8 (Pin Header)
footprint PH-15 (Pin Header)
footprint PH-15-SIDE (Pin Header, Side entry)
footprint PH-15-SIDE-SMD (Pin Header, Side entry, SMD)
pins: 1, 2, 3, 4, 5, 6, 7, 8, 9, 10, 11, 12, 13, 14, 15

## HDR1x16
designator J?
Connector
footprint PIN-16-2.54-1.0 (Pin Header)
footprint PIN-16-2.0-0.8 (Pin Header)
footprint PH-16 (Pin Header)
footprint PH-16-SIDE (Pin Header, Side entry)
pins: 1, 2, 3, 4, 5, 6, 7, 8, 9, 10, 11, 12, 13, 14, 15, 16

## HDR1x17
designator J?
Connector
footprint PIN-17-2.54-1.0 (Pin Header)
footprint PIN-17-2.0-0.8 (Pin Header)
pins: 1, 2, 3, 4, 5, 6, 7, 8, 9, 10, 11, 12, 13, 14, 15, 16, 17

## HDR1x18
designator J?
Connector
footprint PIN-18-2.54-1.0 (Pin Header)
footprint PIN-18-2.0-0.8 (Pin Header)
pins: 1, 2, 3, 4, 5, 6, 7, 8, 9, 10, 11, 12, 13, 14, 15, 16, 17, 18

## HDR1x19
designator J?
Connector
footprint PIN-19-2.54-1.0 (Pin Header)
footprint PIN-19-2.0-0.8 (Pin Header)
pins: 1, 2, 3, 4, 5, 6, 7, 8, 9, 10, 11, 12, 13, 14, 15, 16, 17, 18, 19

## HDR1x20
designator J?
Connector
footprint PIN-20-2.54-1.0 (Pin Header)
footprint PIN-20-2.0-0.8 (Pin Header)
pins: 1, 2, 3, 4, 5, 6, 7, 8, 9, 10, 11, 12, 13, 14, 15, 16, 17, 18, 19, 20

## HDR1x32
designator J?
Connector
footprint WE-68713214522 (FPC Connector, WE, 68713214522)
pins: 1, 2, 3, 4, 5, 6, 7, 8, 9, 10, 11, 12, 13, 14, 15, 16, 17, 18, 19, 20, 21, 22, 23, 24, 25, 26, 27, 28, 29, 30, 31, 32

## HDR2x2
designator J?
Connector
footprint PIN-2x2-2.54-1.0 (Pin Header)
footprint PIN-2X2-2.0-0.8 (Pin Header)
footprint SOCKET-2x2-2.54-1.0 (Socket)
pins: 1, 2, 3, 4

## HDR2x3
designator J?
Connector
footprint PIN-2x3-2.54-1.0 (Pin Header)
footprint PIN-2X3-2.0-0.8 (Pin Header)
footprint SOCKET-2x3-2.54-1.0 (Socket)
pins: 1, 2, 3, 4, 5, 6

## HDR2x4
designator J?
Connector
footprint PIN-2x4-2.54-1.0 (Pin Header)
footprint PIN-2X4-2.0-0.8 (Pin Header)
footprint SOCKET-2x4-2.54-1.0 (Socket)
pins: 1, 2, 3, 4, 5, 6, 7, 8

## HDR2x5
designator J?
Connector
footprint PIN-2x5-2.54-1.0 (Pin Header)
footprint PIN-2X5-2.0-0.8 (Pin Header)
footprint SOCKET-2x5-2.54-1.0 (Socket)
pins: 1, 2, 3, 4, 5, 6, 7, 8, 9, 10

## HDR2x6
designator J?
Connector
footprint PIN-2x6-2.54-1.0 (Pin Header)
footprint PIN-2X6-2.0-0.8 (Pin Header)
footprint SOCKET-2x6-2.54-1.0 (Socket)
pins: 1, 2, 3, 4, 5, 6, 7, 8, 9, 10, 11, 12

## HDR2x7
designator J?
Connector
footprint PIN-2x7-2.54-1.0 (Pin Header)
footprint PIN-2X7-2.0-0.8 (Pin Header)
footprint SOCKET-2x7-2.54-1.0 (Socket)
pins: 1, 2, 3, 4, 5, 6, 7, 8, 9, 10, 11, 12, 13, 14

## HDR2x8
designator J?
Connector
footprint PIN-2x8-2.54-1.0 (Pin Header)
footprint PIN-2X8-2.0-0.8 (Pin Header)
footprint SOCKET-2x8-2.54-1.0 (Socket)
pins: 1, 2, 3, 4, 5, 6, 7, 8, 9, 10, 11, 12, 13, 14, 15, 16

## HDR2x9
designator J?
Connector
footprint PIN-2x9-2.54-1.0 (Pin Header)
footprint PIN-2X9-2.0-0.8 (Pin Header)
footprint SOCKET-2x9-2.54-1.0 (Socket)
pins: 1, 2, 3, 4, 5, 6, 7, 8, 9, 10, 11, 12, 13, 14, 15, 16, 17, 18

## HDR2x10
designator J?
Connector
footprint PIN-2x10-2.54-1.0 (Pin Header)
footprint PIN-2X10-2.0-0.8 (Pin Header)
footprint SOCKET-2x10-2.54-1.0 (Socket)
pins: 1, 2, 3, 4, 5, 6, 7, 8, 9, 10, 11, 12, 13, 14, 15, 16, 17, 18, 19, 20

## HDR2x11
designator J?
Connector
footprint PIN-2x11-2.54-1.0 (Pin Header)
footprint PIN-2X11-2.0-0.8 (Pin Header)
footprint SOCKET-2x11-2.54-1.0 (Socket)
pins: 1, 2, 3, 4, 5, 6, 7, 8, 9, 10, 11, 12, 13, 14, 15, 16, 17, 18, 19, 20, 21, 22

## HDR2x12
designator J?
Connector
footprint PIN-2x12-2.54-1.0 (Pin Header)
footprint PIN-2X12-2.0-0.8 (Pin Header)
footprint SOCKET-2x12-2.54-1.0 (Socket)
pins: 1, 2, 3, 4, 5, 6, 7, 8, 9, 10, 11, 12, 13, 14, 15, 16, 17, 18, 19, 20, 21, 22, 23, 24

## HDR2x13
designator J?
Connector
footprint PIN-2x13-2.54-1.0 (Pin Header)
footprint PIN-2X13-2.0-0.8 (Pin Header)
footprint SOCKET-2x13-2.54-1.0 (Socket)
footprint SOCKET-IDC26 (Socket, IDC)
pins: 1, 2, 3, 4, 5, 6, 7, 8, 9, 10, 11, 12, 13, 14, 15, 16, 17, 18, 19, 20, 21, 22, 23, 24, 25, 26

## HDR2x14
designator J?
Connector
footprint PIN-2x14-2.54-1.0 (Pin Header)
footprint PIN-2X14-2.0-0.8 (Pin Header)
footprint SOCKET-2x14-2.54-1.0 (Socket)
pins: 1, 2, 3, 4, 5, 6, 7, 8, 9, 10, 11, 12, 13, 14, 15, 16, 17, 18, 19, 20, 21, 22, 23, 24, 25, 26, 27, 28

## HDR2x15
designator J?
Connector
footprint PIN-2x15-2.54-1.0 (Pin Header)
footprint PIN-2X15-2.0-0.8 (Pin Header)
footprint SOCKET-2x15-2.54-1.0 (Socket)
pins: 1, 2, 3, 4, 5, 6, 7, 8, 9, 10, 11, 12, 13, 14, 15, 16, 17, 18, 19, 20, 21, 22, 23, 24, 25, 26, 27, 28, 29, 30

## HDR2x16
designator J?
Connector
footprint PIN-2x16-2.54-1.0 (Pin Header)
footprint PIN-2X16-2.0-0.8 (Pin Header)
footprint SOCKET-2x16-2.54-1.0 (Socket)
pins: 1, 2, 3, 4, 5, 6, 7, 8, 9, 10, 11, 12, 13, 14, 15, 16, 17, 18, 19, 20, 21, 22, 23, 24, 25, 26, 27, 28, 29, 30, 31, 32

## HDR2x17
designator J?
Connector
footprint PIN-2x17-2.54-1.0 (Pin Header)
footprint PIN-2X17-2.0-0.8 (Pin Header)
footprint SOCKET-2x17-2.54-1.0 (Socket)
pins: 1, 2, 3, 4, 5, 6, 7, 8, 9, 10, 11, 12, 13, 14, 15, 16, 17, 18, 19, 20, 21, 22, 23, 24, 25, 26, 27, 28, 29, 30, 31, 32, 33, 34

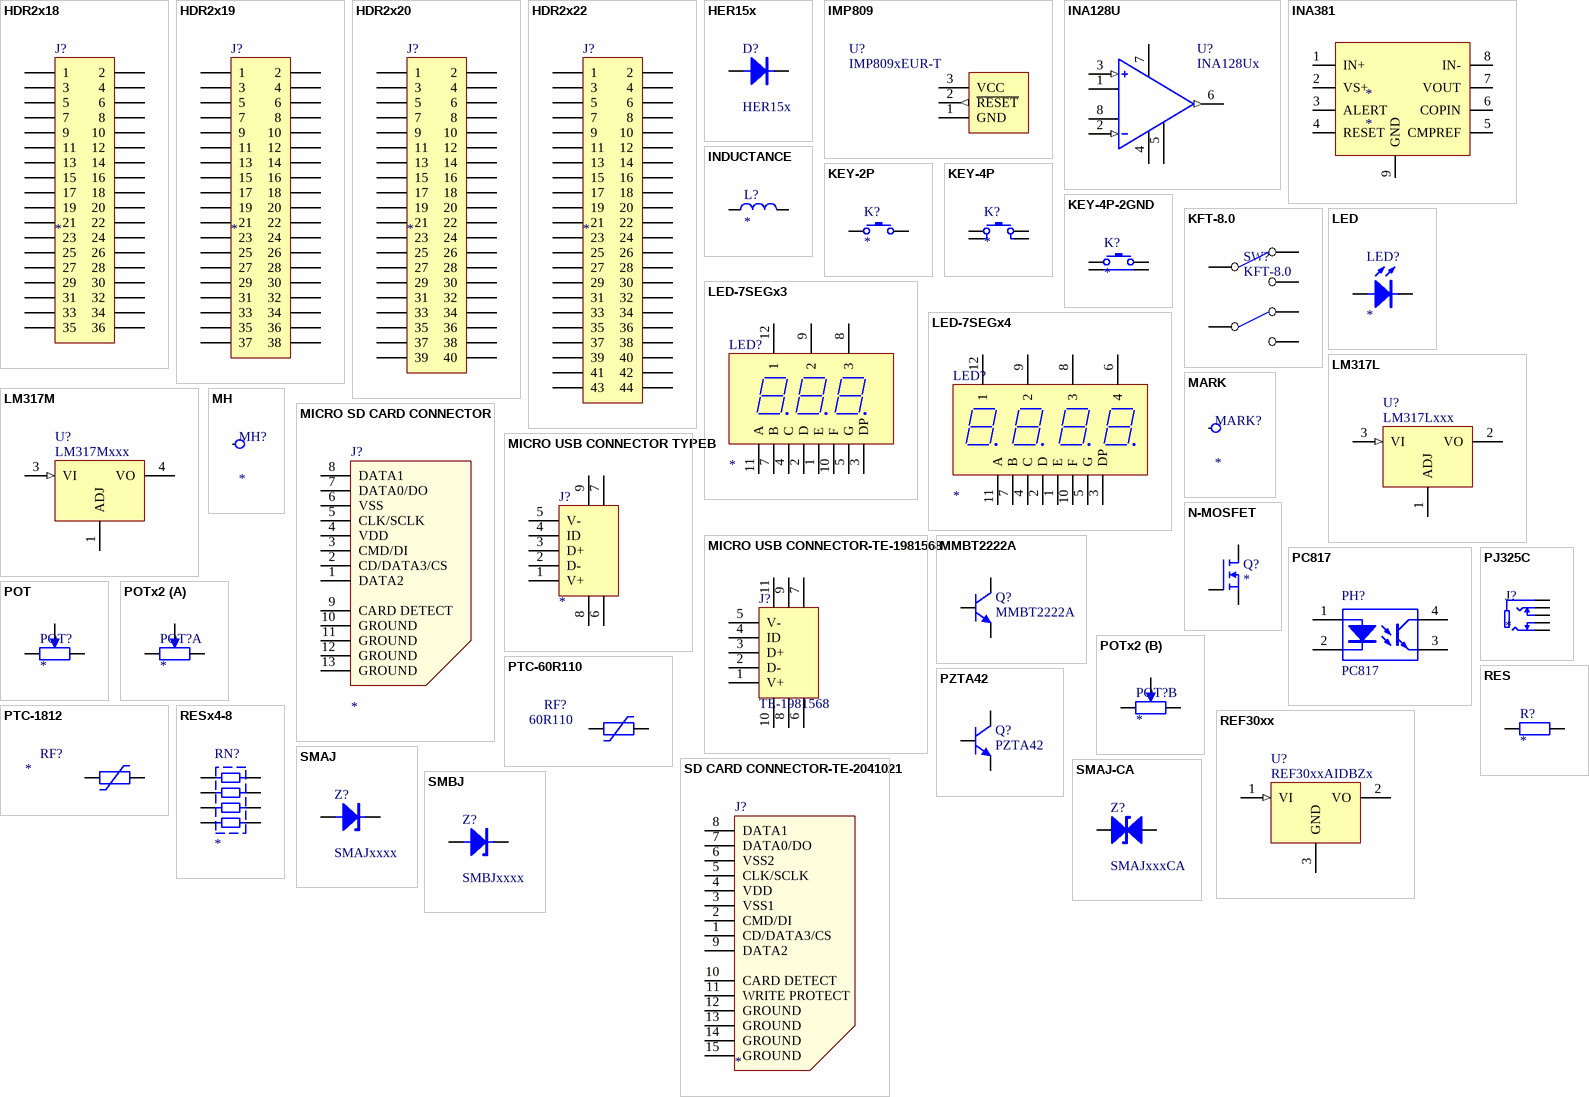
[diagram p5: symbols HDR2x18 to SMBJ]

## HDR2x18
designator J?
Connector
footprint PIN-2x18-2.54-1.0 (Pin Header)
footprint PIN-2X18-2.0-0.8 (Pin Header)
footprint SOCKET-2x18-2.54-1.0 (Socket)
pins: 1, 2, 3, 4, 5, 6, 7, 8, 9, 10, 11, 12, 13, 14, 15, 16, 17, 18, 19, 20, 21, 22, 23, 24, 25, 26, 27, 28, 29, 30, 31, 32, 33, 34, 35, 36

## HDR2x19
designator J?
Connector
footprint PIN-2x19-2.54-1.0 (Pin Header)
footprint PIN-2X19-2.0-0.8 (Pin Header)
footprint SOCKET-2x19-2.54-1.0 (Socket)
pins: 1, 2, 3, 4, 5, 6, 7, 8, 9, 10, 11, 12, 13, 14, 15, 16, 17, 18, 19, 20, 21, 22, 23, 24, 25, 26, 27, 28, 29, 30, 31, 32, 33, 34, 35, 36, 37, 38

## HDR2x20
designator J?
Connector
footprint PIN-2x20-2.54-1.0 (Pin Header)
footprint PIN-2X20-2.0-0.8 (Pin Header)
footprint SOCKET-2x20-2.54-1.0 (Socket)
pins: 1, 2, 3, 4, 5, 6, 7, 8, 9, 10, 11, 12, 13, 14, 15, 16, 17, 18, 19, 20, 21, 22, 23, 24, 25, 26, 27, 28, 29, 30, 31, 32, 33, 34, 35, 36, 37, 38, 39, 40

## HDR2x22
designator J?
Connector
footprint PIN-2X22-2.0-0.8 (Pin Header)
pins: 1, 2, 3, 4, 5, 6, 7, 8, 9, 10, 11, 12, 13, 14, 15, 16, 17, 18, 19, 20, 21, 22, 23, 24, 25, 26, 27, 28, 29, 30, 31, 32, 33, 34, 35, 36, 37, 38, 39, 40, 41, 42, 43, 44

## HER15x
designator D?
Diode
footprint DO-15
pins: 1 A, 2 C

## IMP809
designator U?, comment IMP809xEUR-T
IC
footprint SOT-23 (SOT-23-3)
pins: 1 GND (power), 2 ~{RESET} (out), 3 VCC (power)

## INA128U
designator U?, comment INA128Ux
Operational Amplifiers
footprint SO-8 (SOIC, 8PIN)
pins: 1 RG, 2 -IN (in), 3 +IN (in), 4 -VS (power), 5 REF, 6 OUTPUT (out), 7 +VS (power), 8 RG

## INA381
designator *
footprint WSON-8
pins: 1 IN+, 2 VS+, 3 ALERT, 4 RESET, 5 CMPREF, 6 COPIN, 7 VOUT, 8 IN-, 9 GND

## INDUCTANCE
designator L?
Inductance
footprint SLF7045 (TDK, Inductor, SMD, SLF7045)
footprint SLF10145 (TDK, Inductor, SMD, SLF10145)
footprint CDRR73 (SUMIDA, Inductor, SMD, CDRR73)
footprint CDRR105 (SUMIDA, Inductor, SMD, CDRR105)
footprint LBS7045 (FENGHUA, Inductor, SMD, LBS7045)
footprint LBS10145 (FENGHUA, Inductor, SMD, LBS10145)
footprint FHW1812 (FENGHUA, Inductor, SMD, 1812)
pins: 1, 2

## KEY-2P
designator K?
Key
footprint TACT-SWITCH-6x3.5 (TACT-SWITCH)
pins: 1, 2

## KEY-4P
designator K?
Key
footprint B3FS-100X (OMRON SWITCH)
footprint B3FS-101X (OMRON SWITCH)
footprint B3F-100X (OMRON SWITCH)
footprint B3FS-4 (OMRON SWITCH)
footprint B3F-400X (OMRON SWITCH)
pins: 1, 2, 3, 4

## KEY-4P-2GND
designator K?
Key
footprint TACT-SWITCH-6x3.5-SIDE (TACT-SWITCH)
pins: 1, 2, 3, 4

## KFT-8.0
designator SW?
Switch
footprint KFT-8.0 (PUSH SWITCH)
pins: 1, 2, 3, 4, 5, 6

## LED
designator LED?
LED
footprint LED-0805 (LED, SMD, 0805)
footprint LED-0603 (LED, SMD, 0603)
footprint LED-1206 (LED, SMD, 1206)
footprint LED-PLCC2-3528 (LED, SMD, PLCC2 3528)
footprint LED-D5 (LED)
pins: 1 A, 2 C

## LED-7SEGx3
designator LED?
LED Display
footprint LED-7SEGx3-0.36INCH (LED Digitals Display, 0.36 inch, 3 Digitals)
pins: 1 E, 2 D, 3 DP, 4 C, 5 G, 7 B, 8 3, 9 2, 10 F, 11 A, 12 1

## LED-7SEGx4
designator LED?
LED Display
footprint LED-7SEGx4-0.56INCH (LED Digitals Display, 0.56 inch, 4 Digitals)
pins: 1 E, 2 D, 3 DP, 4 C, 5 G, 6 4, 7 B, 8 3, 9 2, 10 F, 11 A, 12 1

## LM317L
designator U?, comment LM317Lxxx
Linear Regulator
footprint TO-92-0.6 (TO-92)
pins: 1 ADJ, 2 VO (power), 3 VI (in)

## LM317M
designator U?, comment LM317Mxxx
Linear Regulator
footprint TO-252 (TO-252, DPAK)
pins: 1 ADJ, 3 VI (in), 4 VO (power)

## MARK
designator MARK?
Mark
footprint MARK (Mark)
pins: 1

## MH
designator MH?
Mounting Hole
footprint MH-3.5 (Mounting Hole)
footprint MH-4.0 (Mounting Hole)
pins: 1

## MICRO SD CARD CONNECTOR
designator J?
Micro SD Card Connector
footprint MICRO SD CARD CONNECTOR (Micro SD Card Connector)
pins: 1 DATA2, 2 CD/DATA3/CS, 3 CMD/DI, 4 VDD (power), 5 CLK/SCLK, 6 VSS (power), 7 DATA0/DO, 8 DATA1, 9 CARD DETECT, 10 GROUND, 11 GROUND, 12 GROUND, 13 GROUND

## MICRO USB CONNECTOR TYPEB
designator J?
USB Connector
footprint MICRO USB CONNECTOR TYPEB-ST-MC-5F-01 (Micro USB Connector, Type B, ST-MC-5F-01)
pins: 1 V+, 2 D-, 3 D+, 4 ID, 5 V-, 6, 7, 8, 9

## MICRO USB CONNECTOR-TE-1981568
designator J?, comment TE-1981568
USB Connector
footprint MICRO USB CONNECTOR-TE-1981568 (Micro USB Connector, TE, 1981568)
pins: 1 V+, 2 D-, 3 D+, 4 ID, 5 V-, 6, 7, 8, 9, 10, 11

## MMBT2222A
designator Q?
NPN Bipolar Transistor
footprint SOT-23 (SOT-23-3)
pins: 1 B, 2 E, 3 C

## N-MOSFET
designator Q?
N-Channel MOSFET
pins: 1 G, 2 D, 3 S
1 alternate drawing of the same symbol

## PC817
designator PH?
Optoisolator
footprint DIP-4 (Dual In-line Package, 4PIN)
footprint SOP-4 (2.54MM) (SOIC, 4PIN)
pins: 1 A, 2 K, 3 E, 4 C

## PJ325C
designator J?
Audio Jacks
footprint PJ325C (3.5 mm Audio Jacks)
pins: 1, 2, 3, 4, 5

## POT
designator POT?
Potentiometer
footprint PTD901-20 (Potentiometer, Shaft Length 20mm, BOURNS)
footprint 3314J (Square Trimming Potentiometer)
pins: 1, 2, 3

## POTx2
designator POT?
Potentiometer
footprint PTD902-20 (Potentiometer, Shaft Length 20mm, BOURNS)
part A pins: 1, 2, 3
part B pins: 4, 5, 6

## PTC-60R110
designator RF?, comment 60R110
PTC
footprint PTC-13X3.1-5.1-1.0 (PTC)
pins: 1, 2

## PTC-1812
designator RF?
PTC
footprint 1812 (SMD, 1812)
pins: 1, 2

## PZTA42
designator Q?
NPN Bipolar Transistor
footprint SOT-223
pins: 1 B, 2 C, 3 E, 4 C

## REF30xx
designator U?, comment REF30xxAIDBZx
Voltage Reference
footprint SOT-23 (SOT-23-3)
pins: 1 VI (in), 2 VO (power), 3 GND (power)

## RES
designator R?
Resistor
footprint RES-0805 (Resistor, SMD, 0805)
footprint RES-0603 (Resistor, SMD, 0603)
footprint RES-1206 (Resistor, SMD, 1206)
footprint RES-1210 (Resistor, SMD, 1210)
footprint RES-1812 (Resistor, SMD, 1812)
footprint RES-2512 (Resistor, SMD, 2512)
footprint RES-0.125W-3.0X1.8-7.62-0.6 (Resistor, 0.125W)
footprint RES-0.25W-6.5X2.5-10.16-0.6 (Resistor, 0.25W)
footprint RES-0.5W-10.0X3.5-12.7-1 (Resistor, 0.5W)
footprint RES-1W-12.0X5.0-15.24-1 (Resistor, 1W)
footprint RES-2W-16.0X5.5-20.32-1 (Resistor, 2W)
footprint RES-3W-17.0X6.5-22.86-1 (Resistor, 3W)
footprint RES-5W-22.0X10.0-30.48-1 (Resistor, 5W)
pins: 1, 2

## RESx4-8
designator RN?
Resistor Array
footprint RES-0603X4 (Resistor, Array, SMD, 0603*4)
pins: 1, 2, 3, 4, 5, 6, 7, 8

## SD CARD CONNECTOR-TE-2041021
designator J?
SD Card Connector
footprint SD CARD CONNECTOR-TE-2041021 (SD Card Connector, TE, 2041021)
pins: 1 CD/DATA3/CS, 2 CMD/DI, 3 VSS1 (power), 4 VDD (power), 5 CLK/SCLK, 6 VSS2 (power), 7 DATA0/DO, 8 DATA1, 9 DATA2, 10 CARD DETECT, 11 WRITE PROTECT, 12 GROUND, 13 GROUND, 14 GROUND, 15 GROUND

## SMAJ
designator Z?, comment SMAJxxxx
TVS
footprint SMA (DO-214AC)
pins: 1 A, 2 C

## SMAJ-CA
designator Z?, comment SMAJxxxCA
TVS
footprint SMA-NON POLARIZED (DO-214AC)
pins: 1 A, 2 C

## SMBJ
designator Z?, comment SMBJxxxx
TVS
footprint SMB (DO-214AA)
pins: 1 A, 2 C

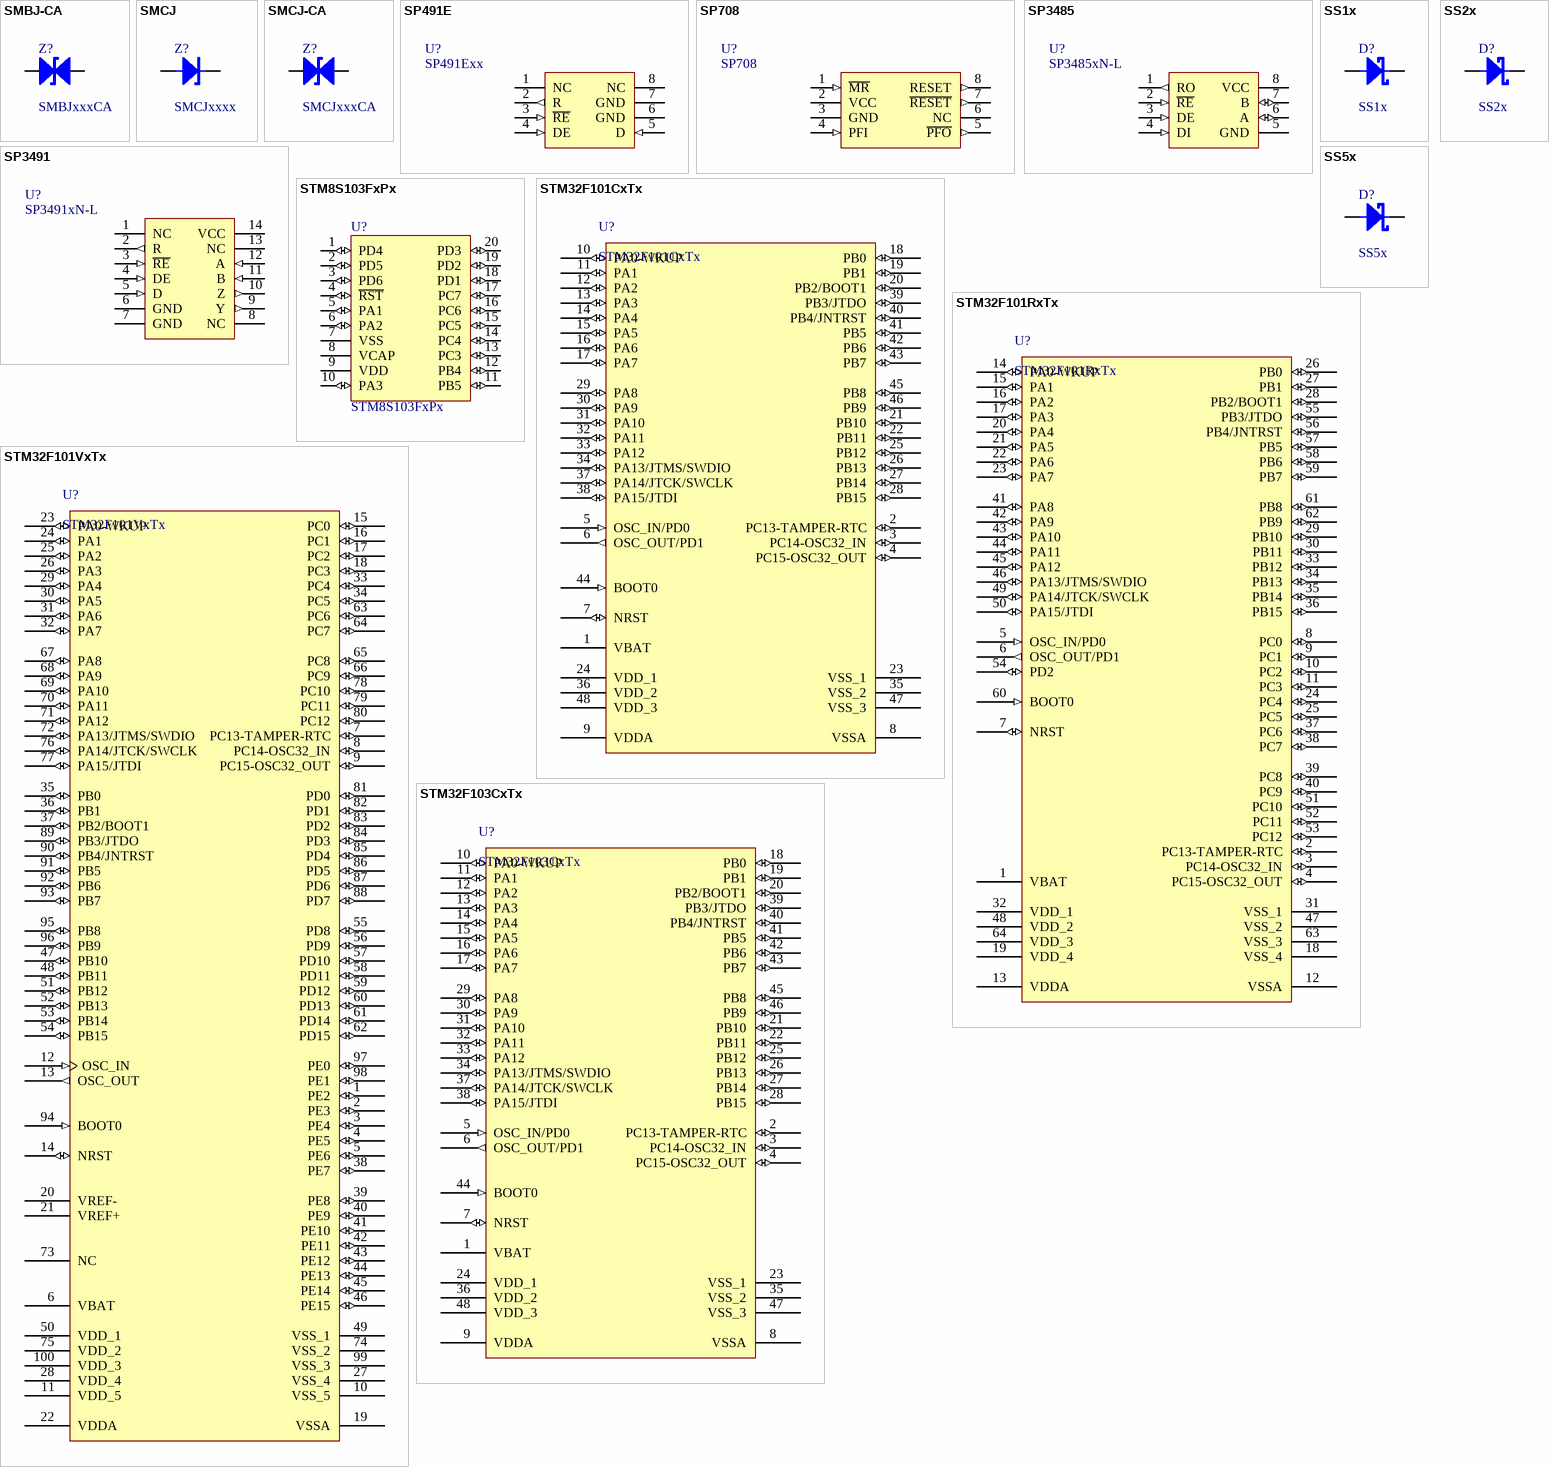
[diagram p6: symbols SMBJ-CA to STM32F103CxTx]

## SMBJ-CA
designator Z?, comment SMBJxxxCA
TVS
footprint SMB-NON POLARIZED (DO-214AA)
pins: 1 A, 2 C

## SMCJ
designator Z?, comment SMCJxxxx
TVS
footprint SMC (DO-214AB)
pins: 1 A, 2 C

## SMCJ-CA
designator Z?, comment SMCJxxxCA
TVS
footprint SMC-NON POLARIZED (DO-214AB)
pins: 1 A, 2 C

## SP491E
designator U?, comment SP491Exx
RS-485 Transceivers
footprint SO-14 (SOIC, 14PIN)
pins: 1 NC, 2 R (out), 3 ~{RE} (in), 4 DE (in), 5 D (in), 6 GND (power), 7 GND (power), 8 NC

## SP708
designator U?
IC
footprint SO-8 (SOIC, 8PIN)
pins: 1 ~{MR} (in), 2 VCC (power), 3 GND (power), 4 PFI (in), 5 ~{PFO} (out), 6 NC, 7 ~{RESET} (out), 8 RESET (out)

## SP3485
designator U?, comment SP3485xN-L
RS-485 Transceivers
footprint SO-8 (SOIC, 8PIN)
pins: 1 RO (out), 2 ~{RE} (in), 3 DE (in), 4 DI (in), 5 GND (power), 6 A (io), 7 B (io), 8 VCC (power)

## SP3491
designator U?, comment SP3491xN-L
RS-485/RS-422 Transceivers
footprint SO-14 (SOIC, 14PIN)
pins: 1 NC, 2 R (out), 3 ~{RE} (in), 4 DE (in), 5 D (in), 6 GND (power), 7 GND (power), 8 NC, 9 Y (out), 10 Z (out), 11 B (in), 12 A (in), 13 NC, 14 VCC (power)

## SS1x
designator D?
Schottky Diode
footprint SMA (DO-214AC)
pins: 1 A, 2 C

## SS2x
designator D?
Schottky Diode
footprint SMB (DO-214AA)
pins: 1 A, 2 C

## SS5x
designator D?
Schottky Diode
footprint SMC (DO-214AB)
pins: 1 A, 2 C

## STM8S103FxPx
designator U?
MCU
footprint TSSOP-20 (TSSOP, 20PIN)
pins: 1 PD4 (io), 2 PD5 (io), 3 PD6 (io), 4 ~{RST} (io), 5 PA1 (io), 6 PA2 (io), 7 VSS (power), 8 VCAP (power), 9 VDD (power), 10 PA3 (io), 11 PB5 (io), 12 PB4 (io), 13 PC3 (io), 14 PC4 (io), 15 PC5 (io), 16 PC6 (io), 17 PC7 (io), 18 PD1 (io), 19 PD2 (io), 20 PD3 (io)

## STM32F101CxTx
designator U?
MCU
footprint QFP-48-0.5 (QFP-48)
pins: 1 VBAT (power), 2 PC13-TAMPER-RTC (io), 3 PC14-OSC32_IN (io), 4 PC15-OSC32_OUT (io), 5 OSC_IN/PD0 (in), 6 OSC_OUT/PD1 (out), 7 NRST (io), 8 VSSA (power), 9 VDDA (power), 10 PA0-WKUP (io), 11 PA1 (io), 12 PA2 (io), 13 PA3 (io), 14 PA4 (io), 15 PA5 (io), 16 PA6 (io), 17 PA7 (io), 18 PB0 (io), 19 PB1 (io), 20 PB2/BOOT1 (io), 21 PB10 (io), 22 PB11 (io), 23 VSS_1 (power), 24 VDD_1 (power), 25 PB12 (io), 26 PB13 (io), 27 PB14 (io), 28 PB15 (io), 29 PA8 (io), 30 PA9 (io), 31 PA10 (io), 32 PA11 (io), 33 PA12 (io), 34 PA13/JTMS/SWDIO (io), 35 VSS_2 (power), 36 VDD_2 (power), 37 PA14/JTCK/SWCLK (io), 38 PA15/JTDI (io), 39 PB3/JTDO (io), 40 PB4/JNTRST (io), 41 PB5 (io), 42 PB6 (io), 43 PB7 (io), 44 BOOT0 (in), 45 PB8 (io), 46 PB9 (io), 47 VSS_3 (power), 48 VDD_3 (power)

## STM32F101RxTx
designator U?
MCU
footprint QFP-64-0.5 (QFP-64)
pins: 1 VBAT (power), 2 PC13-TAMPER-RTC (io), 3 PC14-OSC32_IN (io), 4 PC15-OSC32_OUT (io), 5 OSC_IN/PD0 (in), 6 OSC_OUT/PD1 (out), 7 NRST (io), 8 PC0 (io), 9 PC1 (io), 10 PC2 (io), 11 PC3 (io), 12 VSSA (power), 13 VDDA (power), 14 PA0-WKUP (io), 15 PA1 (io), 16 PA2 (io), 17 PA3 (io), 18 VSS_4 (power), 19 VDD_4 (power), 20 PA4 (io), 21 PA5 (io), 22 PA6 (io), 23 PA7 (io), 24 PC4 (io), 25 PC5 (io), 26 PB0 (io), 27 PB1 (io), 28 PB2/BOOT1 (io), 29 PB10 (io), 30 PB11 (io), 31 VSS_1 (power), 32 VDD_1 (power), 33 PB12 (io), 34 PB13 (io), 35 PB14 (io), 36 PB15 (io), 37 PC6 (io), 38 PC7 (io), 39 PC8 (io), 40 PC9 (io), 41 PA8 (io), 42 PA9 (io), 43 PA10 (io), 44 PA11 (io), 45 PA12 (io), 46 PA13/JTMS/SWDIO (io), 47 VSS_2 (power), 48 VDD_2 (power), 49 PA14/JTCK/SWCLK (io), 50 PA15/JTDI (io), 51 PC10 (io), 52 PC11 (io), 53 PC12 (io), 54 PD2 (io), 55 PB3/JTDO (io), 56 PB4/JNTRST (io), 57 PB5 (io), 58 PB6 (io), 59 PB7 (io), 60 BOOT0 (in), 61 PB8 (io), 62 PB9 (io), 63 VSS_3 (power), 64 VDD_3 (power)

## STM32F101VxTx
designator U?
MCU
footprint QFP-100-0.5 (QFP-100)
pins: 1 PE2 (io), 2 PE3 (io), 3 PE4 (io), 4 PE5 (io), 5 PE6 (io), 6 VBAT (power), 7 PC13-TAMPER-RTC (io), 8 PC14-OSC32_IN (io), 9 PC15-OSC32_OUT (io), 10 VSS_5 (power), 11 VDD_5 (power), 12 OSC_IN (in), 13 OSC_OUT (out), 14 NRST (io), 15 PC0 (io), 16 PC1 (io), 17 PC2 (io), 18 PC3 (io), 19 VSSA (power), 20 VREF- (power), 21 VREF+ (power), 22 VDDA (power), 23 PA0-WKUP (io), 24 PA1 (io), 25 PA2 (io), 26 PA3 (io), 27 VSS_4 (power), 28 VDD_4 (power), 29 PA4 (io), 30 PA5 (io), 31 PA6 (io), 32 PA7 (io), 33 PC4 (io), 34 PC5 (io), 35 PB0 (io), 36 PB1 (io), 37 PB2/BOOT1 (io), 38 PE7 (io), 39 PE8 (io), 40 PE9 (io), 41 PE10 (io), 42 PE11 (io), 43 PE12 (io), 44 PE13 (io), 45 PE14 (io), 46 PE15 (io), 47 PB10 (io), 48 PB11 (io), 49 VSS_1 (power), 50 VDD_1 (power), 51 PB12 (io), 52 PB13 (io), 53 PB14 (io), 54 PB15 (io), 55 PD8 (io), 56 PD9 (io), 57 PD10 (io), 58 PD11 (io), 59 PD12 (io), 60 PD13 (io), 61 PD14 (io), 62 PD15 (io), 63 PC6 (io), 64 PC7 (io), 65 PC8 (io), 66 PC9 (io), 67 PA8 (io), 68 PA9 (io), 69 PA10 (io), 70 PA11 (io), 71 PA12 (io), 72 PA13/JTMS/SWDIO (io), 73 NC, 74 VSS_2 (power), 75 VDD_2 (power), 76 PA14/JTCK/SWCLK (io), 77 PA15/JTDI (io), 78 PC10 (io), 79 PC11 (io), 80 PC12 (io), 81 PD0 (io), 82 PD1 (io), 83 PD2 (io), 84 PD3 (io), 85 PD4 (io), 86 PD5 (io), 87 PD6 (io), 88 PD7 (io), 89 PB3/JTDO (io), 90 PB4/JNTRST (io), 91 PB5 (io), 92 PB6 (io), 93 PB7 (io), 94 BOOT0 (in), 95 PB8 (io), 96 PB9 (io), 97 PE0 (io), 98 PE1 (io), 99 VSS_3 (power), 100 VDD_3 (power)

## STM32F103CxTx
designator U?
MCU
footprint QFP-48-0.5 (QFP-48)
pins: 1 VBAT (power), 2 PC13-TAMPER-RTC (io), 3 PC14-OSC32_IN (io), 4 PC15-OSC32_OUT (io), 5 OSC_IN/PD0 (in), 6 OSC_OUT/PD1 (out), 7 NRST (io), 8 VSSA (power), 9 VDDA (power), 10 PA0-WKUP (io), 11 PA1 (io), 12 PA2 (io), 13 PA3 (io), 14 PA4 (io), 15 PA5 (io), 16 PA6 (io), 17 PA7 (io), 18 PB0 (io), 19 PB1 (io), 20 PB2/BOOT1 (io), 21 PB10 (io), 22 PB11 (io), 23 VSS_1 (power), 24 VDD_1 (power), 25 PB12 (io), 26 PB13 (io), 27 PB14 (io), 28 PB15 (io), 29 PA8 (io), 30 PA9 (io), 31 PA10 (io), 32 PA11 (io), 33 PA12 (io), 34 PA13/JTMS/SWDIO (io), 35 VSS_2 (power), 36 VDD_2 (power), 37 PA14/JTCK/SWCLK (io), 38 PA15/JTDI (io), 39 PB3/JTDO (io), 40 PB4/JNTRST (io), 41 PB5 (io), 42 PB6 (io), 43 PB7 (io), 44 BOOT0 (in), 45 PB8 (io), 46 PB9 (io), 47 VSS_3 (power), 48 VDD_3 (power)

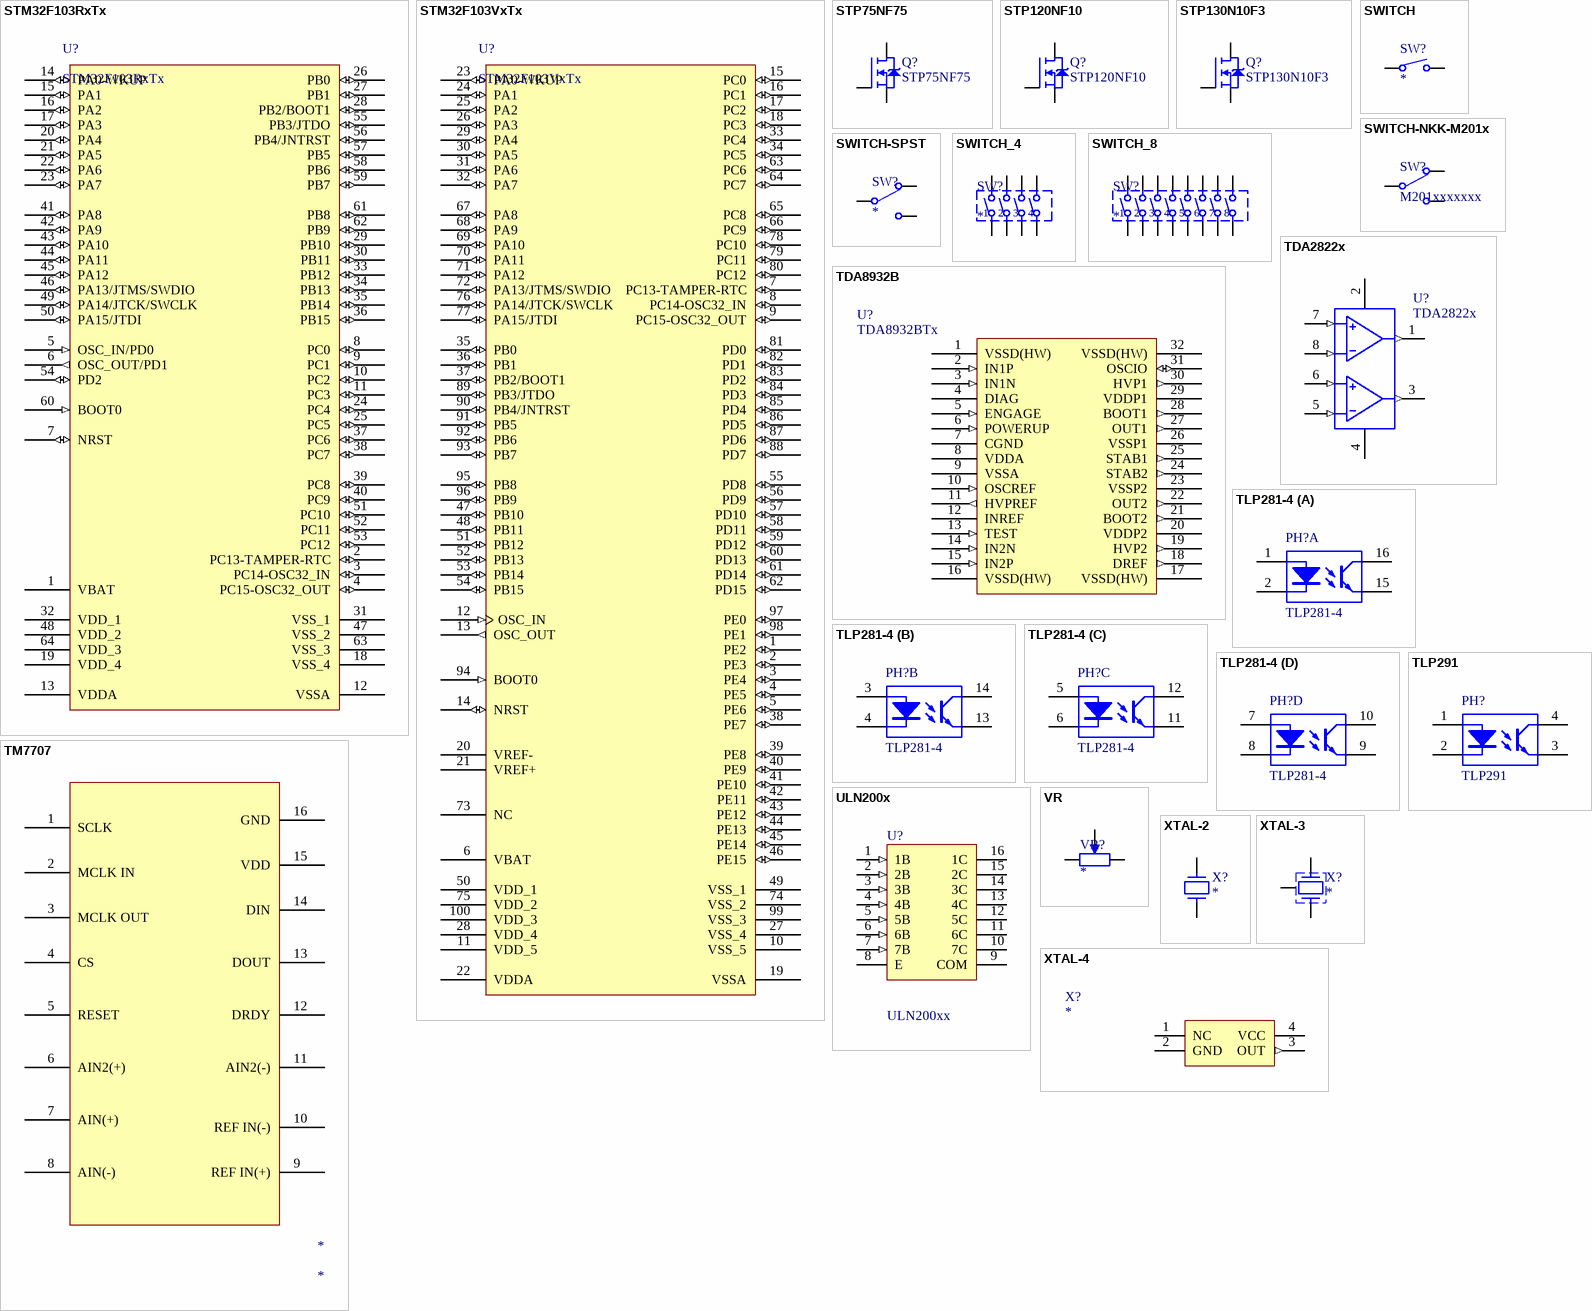
[diagram p7: symbols STM32F103RxTx to XTAL-4]